# Altium schematic symbol library MCU_Texas_MSP430.SchLib: 361 symbols (part 4 of 9)
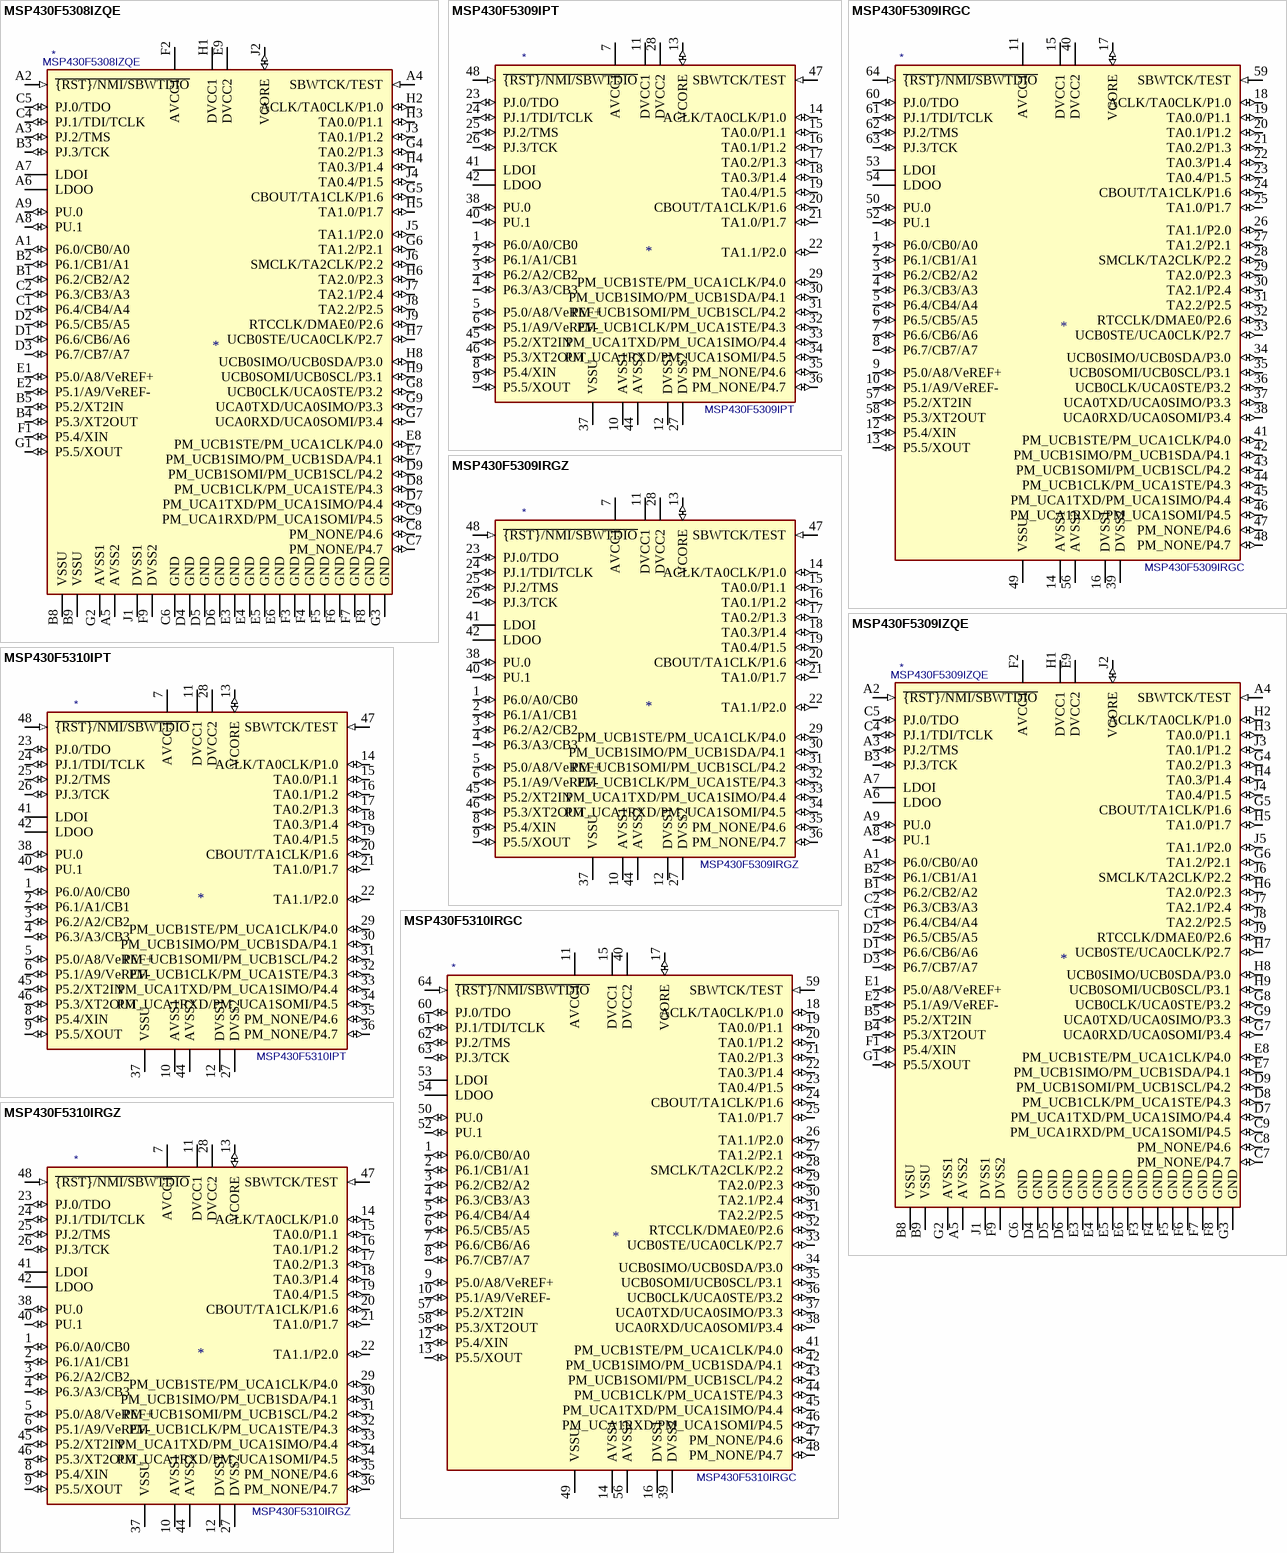
[diagram p37: symbols MSP430F5308IZQE to MSP430F5310IRGZ]

## MSP430F5309IZQE
designator *  value MSP430F5309IZQE
ki_keywords: TI MSP430 16-bit mixed signal microcontroller; ki_description: 24kB Flash, 6kB RAM, BGA-80; ki_fp_filters: Texas*MicroStar*Junior*BGA*5.0x5.0mm*Layout9x9*P0.5mm*; Footprint: Package_BGA:Texas_MicroStar_Junior_BGA-80_5.0x5.0mm_Layout9x9_P0.5mm; Supplier: http://www.ti.com/lit/ds/symlink/msp430f5309.pdf
footprint Texas_MicroStar_Junior_BGA-80_5.0x5.0mm_Layout9x9_P0.5mm
pins: A1 P6.0/CB0/A0 (io), A2 ~{{RST}/NMI/SBWTDIO} (in), A3 PJ.2/TMS (io), A4 SBWTCK/TEST (in), A5 AVSS2 (power), A6 LDOO (power), A7 LDOI (power), A8 PU.1 (io), A9 PU.0 (io), B1 P6.2/CB2/A2 (io), B2 P6.1/CB1/A1 (io), B3 PJ.3/TCK (io), B4 P5.3/XT2OUT (io), B5 P5.2/XT2IN (io), B8 VSSU (power), B9 VSSU (power), C1 P6.4/CB4/A4 (io), C2 P6.3/CB3/A3 (io), C4 PJ.1/TDI/TCLK (io), C5 PJ.0/TDO (io), C6 GND (power), C7 PM_NONE/P4.7 (io), C8 PM_NONE/P4.6 (io), C9 PM_UCA1RXD/PM_UCA1SOMI/P4.5 (io), D1 P6.6/CB6/A6 (io), D2 P6.5/CB5/A5 (io), D3 P6.7/CB7/A7 (io), D4 GND (power), D5 GND (power), D6 GND (power), D7 PM_UCA1TXD/PM_UCA1SIMO/P4.4 (io), D8 PM_UCB1CLK/PM_UCA1STE/P4.3 (io), D9 PM_UCB1SOMI/PM_UCB1SCL/P4.2 (io), E1 P5.0/A8/VeREF+ (io), E2 P5.1/A9/VeREF- (io), E3 GND (power), E4 GND (power), E5 GND (power), E6 GND (power), E7 PM_UCB1SIMO/PM_UCB1SDA/P4.1 (io), E8 PM_UCB1STE/PM_UCA1CLK/P4.0 (io), E9 DVCC2 (power), F1 P5.4/XIN (io), F2 AVCC1 (power), F3 GND (power), F4 GND (power), F5 GND (power), F6 GND (power), F7 GND (power), F8 GND (power), F9 DVSS2 (power), G1 P5.5/XOUT (io), G2 AVSS1 (power), G3 GND (power), G4 TA0.2/P1.3 (io), G5 CBOUT/TA1CLK/P1.6 (io), G6 TA1.2/P2.1 (io), G7 UCA0RXD/UCA0SOMI/P3.4 (io), G8 UCB0CLK/UCA0STE/P3.2 (io), G9 UCA0TXD/UCA0SIMO/P3.3 (io), H1 DVCC1 (power), H2 ACLK/TA0CLK/P1.0 (io), H3 TA0.0/P1.1 (io), H4 TA0.3/P1.4 (io), H5 TA1.0/P1.7 (io), H6 TA2.0/P2.3 (io), H7 UCB0STE/UCA0CLK/P2.7 (io), H8 UCB0SIMO/UCB0SDA/P3.0 (io), H9 UCB0SOMI/UCB0SCL/P3.1 (io), J1 DVSS1 (power), J2 VCORE (io), J3 TA0.1/P1.2 (io), J4 TA0.4/P1.5 (io), J5 TA1.1/P2.0 (io), J6 SMCLK/TA2CLK/P2.2 (io), J7 TA2.1/P2.4 (io), J8 TA2.2/P2.5 (io), J9 RTCCLK/DMAE0/P2.6 (io)

## MSP430F5310IPT
designator *  value MSP430F5310IPT
ki_keywords: TI MSP430 16-bit mixed signal microcontroller; ki_description: 32kB Flash, 6kB RAM, LQFP-48; ki_fp_filters: LQFP*7x7mm*P0.5mm*; Footprint: Package_QFP:LQFP-48_7x7mm_P0.5mm; Supplier: http://www.ti.com/lit/ds/symlink/msp430f5310.pdf
footprint LQFP-48_7x7mm_P0.5mm
pins: 1 P6.0/A0/CB0 (io), 2 P6.1/A1/CB1 (io), 3 P6.2/A2/CB2 (io), 4 P6.3/A3/CB3 (io), 5 P5.0/A8/VeREF+ (io), 6 P5.1/A9/VeREF- (io), 7 AVCC1 (power), 8 P5.4/XIN (io), 9 P5.5/XOUT (io), 10 AVSS1 (power), 11 DVCC1 (power), 12 DVSS1 (power), 13 VCORE (io), 14 ACLK/TA0CLK/P1.0 (io), 15 TA0.0/P1.1 (io), 16 TA0.1/P1.2 (io), 17 TA0.2/P1.3 (io), 18 TA0.3/P1.4 (io), 19 TA0.4/P1.5 (io), 20 CBOUT/TA1CLK/P1.6 (io), 21 TA1.0/P1.7 (io), 22 TA1.1/P2.0 (io), 23 PJ.0/TDO (io), 24 PJ.1/TDI/TCLK (io), 25 PJ.2/TMS (io), 26 PJ.3/TCK (io), 27 DVSS2 (power), 28 DVCC2 (power), 29 PM_UCB1STE/PM_UCA1CLK/P4.0 (io), 30 PM_UCB1SIMO/PM_UCB1SDA/P4.1 (io), 31 PM_UCB1SOMI/PM_UCB1SCL/P4.2 (io), 32 PM_UCB1CLK/PM_UCA1STE/P4.3 (io), 33 PM_UCA1TXD/PM_UCA1SIMO/P4.4 (io), 34 PM_UCA1RXD/PM_UCA1SOMI/P4.5 (io), 35 PM_NONE/P4.6 (io), 36 PM_NONE/P4.7 (io), 37 VSSU (power), 38 PU.0 (io), 40 PU.1 (io), 41 LDOI (power), 42 LDOO (power), 44 AVSS2 (power), 45 P5.2/XT2IN (io), 46 P5.3/XT2OUT (io), 47 SBWTCK/TEST (in), 48 ~{{RST}/NMI/SBWTDIO} (in)

## MSP430F5310IRGC
designator *  value MSP430F5310IRGC
ki_keywords: TI MSP430 16-bit mixed signal microcontroller; ki_description: 32kB Flash, 6kB RAM, QFN-64; ki_fp_filters: Texas*S?PVQFN*; Footprint: Package_DFN_QFN:Texas_S-PVQFN-N64_EP4.25x4.25mm; Supplier: http://www.ti.com/lit/ds/symlink/msp430f5310.pdf
footprint Texas_S-PVQFN-N64_EP4.25x4.25mm
pins: 1 P6.0/CB0/A0 (io), 2 P6.1/CB1/A1 (io), 3 P6.2/CB2/A2 (io), 4 P6.3/CB3/A3 (io), 5 P6.4/CB4/A4 (io), 6 P6.5/CB5/A5 (io), 7 P6.6/CB6/A6 (io), 8 P6.7/CB7/A7 (io), 9 P5.0/A8/VeREF+ (io), 10 P5.1/A9/VeREF- (io), 11 AVCC1 (power), 12 P5.4/XIN (io), 13 P5.5/XOUT (io), 14 AVSS1 (power), 15 DVCC1 (power), 16 DVSS1 (power), 17 VCORE (io), 18 ACLK/TA0CLK/P1.0 (io), 19 TA0.0/P1.1 (io), 20 TA0.1/P1.2 (io), 21 TA0.2/P1.3 (io), 22 TA0.3/P1.4 (io), 23 TA0.4/P1.5 (io), 24 CBOUT/TA1CLK/P1.6 (io), 25 TA1.0/P1.7 (io), 26 TA1.1/P2.0 (io), 27 TA1.2/P2.1 (io), 28 SMCLK/TA2CLK/P2.2 (io), 29 TA2.0/P2.3 (io), 30 TA2.1/P2.4 (io), 31 TA2.2/P2.5 (io), 32 RTCCLK/DMAE0/P2.6 (io), 33 UCB0STE/UCA0CLK/P2.7 (io), 34 UCB0SIMO/UCB0SDA/P3.0 (io), 35 UCB0SOMI/UCB0SCL/P3.1 (io), 36 UCB0CLK/UCA0STE/P3.2 (io), 37 UCA0TXD/UCA0SIMO/P3.3 (io), 38 UCA0RXD/UCA0SOMI/P3.4 (io), 39 DVSS2 (power), 40 DVCC2 (power), 41 PM_UCB1STE/PM_UCA1CLK/P4.0 (io), 42 PM_UCB1SIMO/PM_UCB1SDA/P4.1 (io), 43 PM_UCB1SOMI/PM_UCB1SCL/P4.2 (io), 44 PM_UCB1CLK/PM_UCA1STE/P4.3 (io), 45 PM_UCA1TXD/PM_UCA1SIMO/P4.4 (io), 46 PM_UCA1RXD/PM_UCA1SOMI/P4.5 (io), 47 PM_NONE/P4.6 (io), 48 PM_NONE/P4.7 (io), 49 VSSU (power), 50 PU.0 (io), 52 PU.1 (io), 53 LDOI (power), 54 LDOO (power), 56 AVSS2 (power), 57 P5.2/XT2IN (io), 58 P5.3/XT2OUT (io), 59 SBWTCK/TEST (in), 60 PJ.0/TDO (io), 61 PJ.1/TDI/TCLK (io), 62 PJ.2/TMS (io), 63 PJ.3/TCK (io), 64 ~{{RST}/NMI/SBWTDIO} (in)

## MSP430F5310IRGZ
designator *  value MSP430F5310IRGZ
ki_keywords: TI MSP430 16-bit mixed signal microcontroller; ki_description: 32kB Flash, 6kB RAM, QFN-48; ki_fp_filters: Texas*S?PVQFN*; Footprint: Package_DFN_QFN:Texas_S-PVQFN-N48_EP5.15x5.15mm; Supplier: http://www.ti.com/lit/ds/symlink/msp430f5310.pdf
footprint Texas_S-PVQFN-N48_EP5.15x5.15mm
pins: 1 P6.0/A0/CB0 (io), 2 P6.1/A1/CB1 (io), 3 P6.2/A2/CB2 (io), 4 P6.3/A3/CB3 (io), 5 P5.0/A8/VeREF+ (io), 6 P5.1/A9/VeREF- (io), 7 AVCC1 (power), 8 P5.4/XIN (io), 9 P5.5/XOUT (io), 10 AVSS1 (power), 11 DVCC1 (power), 12 DVSS1 (power), 13 VCORE (io), 14 ACLK/TA0CLK/P1.0 (io), 15 TA0.0/P1.1 (io), 16 TA0.1/P1.2 (io), 17 TA0.2/P1.3 (io), 18 TA0.3/P1.4 (io), 19 TA0.4/P1.5 (io), 20 CBOUT/TA1CLK/P1.6 (io), 21 TA1.0/P1.7 (io), 22 TA1.1/P2.0 (io), 23 PJ.0/TDO (io), 24 PJ.1/TDI/TCLK (io), 25 PJ.2/TMS (io), 26 PJ.3/TCK (io), 27 DVSS2 (power), 28 DVCC2 (power), 29 PM_UCB1STE/PM_UCA1CLK/P4.0 (io), 30 PM_UCB1SIMO/PM_UCB1SDA/P4.1 (io), 31 PM_UCB1SOMI/PM_UCB1SCL/P4.2 (io), 32 PM_UCB1CLK/PM_UCA1STE/P4.3 (io), 33 PM_UCA1TXD/PM_UCA1SIMO/P4.4 (io), 34 PM_UCA1RXD/PM_UCA1SOMI/P4.5 (io), 35 PM_NONE/P4.6 (io), 36 PM_NONE/P4.7 (io), 37 VSSU (power), 38 PU.0 (io), 40 PU.1 (io), 41 LDOI (power), 42 LDOO (power), 44 AVSS2 (power), 45 P5.2/XT2IN (io), 46 P5.3/XT2OUT (io), 47 SBWTCK/TEST (in), 48 ~{{RST}/NMI/SBWTDIO} (in)

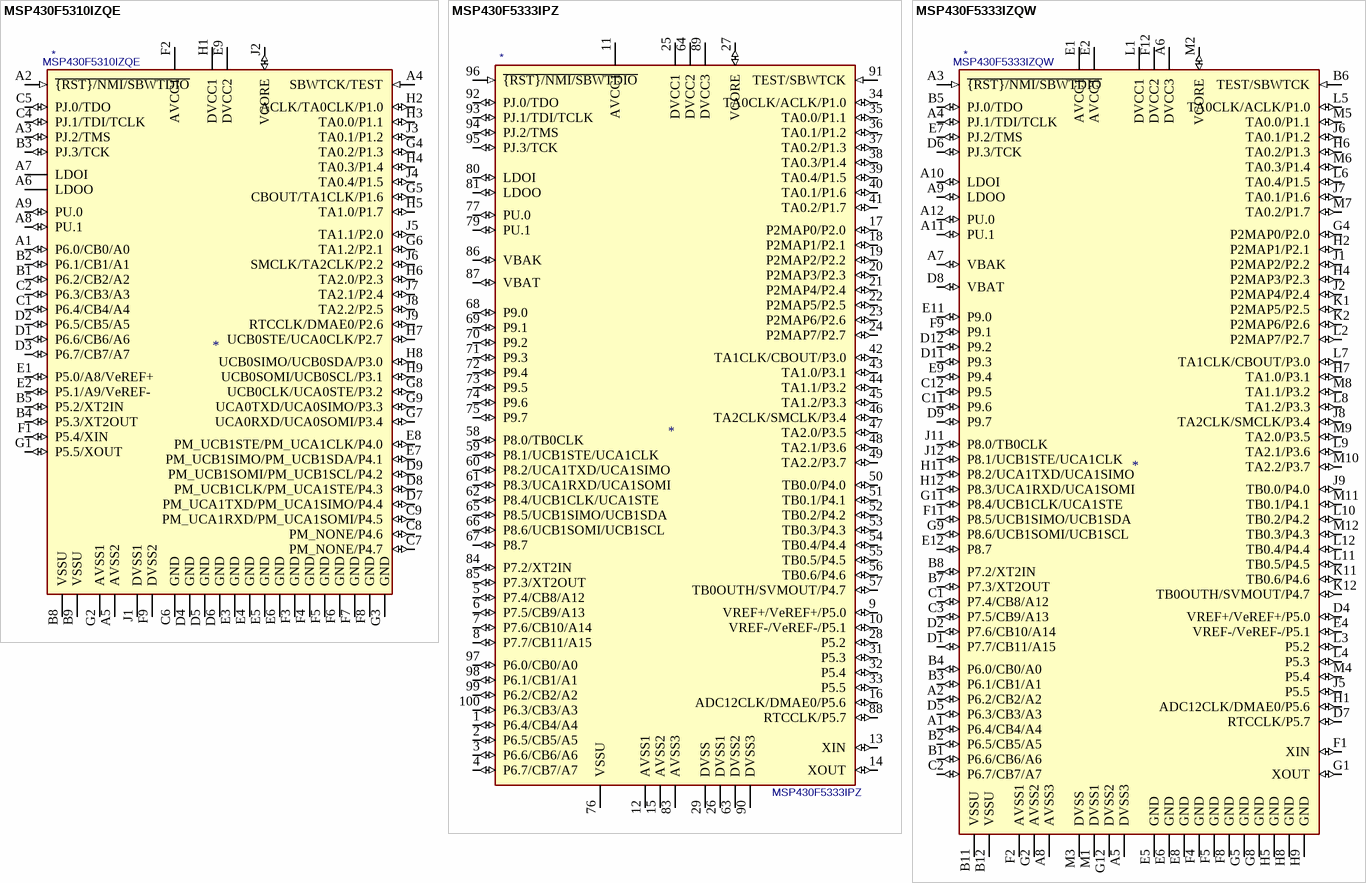
[diagram p12: symbols MSP430F5310IZQE to MSP430F5333IZQW]

## MSP430F5310IZQE
designator *  value MSP430F5310IZQE
ki_keywords: TI MSP430 16-bit mixed signal microcontroller; ki_description: 32kB Flash, 6kB RAM, BGA-80; ki_fp_filters: Texas*MicroStar*Junior*BGA*5.0x5.0mm*Layout9x9*P0.5mm*; Footprint: Package_BGA:Texas_MicroStar_Junior_BGA-80_5.0x5.0mm_Layout9x9_P0.5mm; Supplier: http://www.ti.com/lit/ds/symlink/msp430f5310.pdf
footprint Texas_MicroStar_Junior_BGA-80_5.0x5.0mm_Layout9x9_P0.5mm
pins: A1 P6.0/CB0/A0 (io), A2 ~{{RST}/NMI/SBWTDIO} (in), A3 PJ.2/TMS (io), A4 SBWTCK/TEST (in), A5 AVSS2 (power), A6 LDOO (power), A7 LDOI (power), A8 PU.1 (io), A9 PU.0 (io), B1 P6.2/CB2/A2 (io), B2 P6.1/CB1/A1 (io), B3 PJ.3/TCK (io), B4 P5.3/XT2OUT (io), B5 P5.2/XT2IN (io), B8 VSSU (power), B9 VSSU (power), C1 P6.4/CB4/A4 (io), C2 P6.3/CB3/A3 (io), C4 PJ.1/TDI/TCLK (io), C5 PJ.0/TDO (io), C6 GND (power), C7 PM_NONE/P4.7 (io), C8 PM_NONE/P4.6 (io), C9 PM_UCA1RXD/PM_UCA1SOMI/P4.5 (io), D1 P6.6/CB6/A6 (io), D2 P6.5/CB5/A5 (io), D3 P6.7/CB7/A7 (io), D4 GND (power), D5 GND (power), D6 GND (power), D7 PM_UCA1TXD/PM_UCA1SIMO/P4.4 (io), D8 PM_UCB1CLK/PM_UCA1STE/P4.3 (io), D9 PM_UCB1SOMI/PM_UCB1SCL/P4.2 (io), E1 P5.0/A8/VeREF+ (io), E2 P5.1/A9/VeREF- (io), E3 GND (power), E4 GND (power), E5 GND (power), E6 GND (power), E7 PM_UCB1SIMO/PM_UCB1SDA/P4.1 (io), E8 PM_UCB1STE/PM_UCA1CLK/P4.0 (io), E9 DVCC2 (power), F1 P5.4/XIN (io), F2 AVCC1 (power), F3 GND (power), F4 GND (power), F5 GND (power), F6 GND (power), F7 GND (power), F8 GND (power), F9 DVSS2 (power), G1 P5.5/XOUT (io), G2 AVSS1 (power), G3 GND (power), G4 TA0.2/P1.3 (io), G5 CBOUT/TA1CLK/P1.6 (io), G6 TA1.2/P2.1 (io), G7 UCA0RXD/UCA0SOMI/P3.4 (io), G8 UCB0CLK/UCA0STE/P3.2 (io), G9 UCA0TXD/UCA0SIMO/P3.3 (io), H1 DVCC1 (power), H2 ACLK/TA0CLK/P1.0 (io), H3 TA0.0/P1.1 (io), H4 TA0.3/P1.4 (io), H5 TA1.0/P1.7 (io), H6 TA2.0/P2.3 (io), H7 UCB0STE/UCA0CLK/P2.7 (io), H8 UCB0SIMO/UCB0SDA/P3.0 (io), H9 UCB0SOMI/UCB0SCL/P3.1 (io), J1 DVSS1 (power), J2 VCORE (io), J3 TA0.1/P1.2 (io), J4 TA0.4/P1.5 (io), J5 TA1.1/P2.0 (io), J6 SMCLK/TA2CLK/P2.2 (io), J7 TA2.1/P2.4 (io), J8 TA2.2/P2.5 (io), J9 RTCCLK/DMAE0/P2.6 (io)

## MSP430F5333IPZ
designator *  value MSP430F5333IPZ
ki_keywords: TI MSP430 16-bit mixed signal microcontroller; ki_description: 128kB Flash, 10kB RAM, LQFP-100; ki_fp_filters: LQFP*14x14mm*P0.5mm*; Footprint: Package_QFP:LQFP-100_14x14mm_P0.5mm; Supplier: http://www.ti.com/lit/ds/symlink/msp430f5333.pdf
footprint LQFP-100_14x14mm_P0.5mm
pins: 1 P6.4/CB4/A4 (io), 2 P6.5/CB5/A5 (io), 3 P6.6/CB6/A6 (io), 4 P6.7/CB7/A7 (io), 5 P7.4/CB8/A12 (io), 6 P7.5/CB9/A13 (io), 7 P7.6/CB10/A14 (io), 8 P7.7/CB11/A15 (io), 9 VREF+/VeREF+/P5.0 (io), 10 VREF-/VeREF-/P5.1 (io), 11 AVCC1 (power), 12 AVSS1 (power), 13 XIN (io), 14 XOUT (io), 15 AVSS2 (power), 16 ADC12CLK/DMAE0/P5.6 (io), 17 P2MAP0/P2.0 (io), 18 P2MAP1/P2.1 (io), 19 P2MAP2/P2.2 (io), 20 P2MAP3/P2.3 (io), 21 P2MAP4/P2.4 (io), 22 P2MAP5/P2.5 (io), 23 P2MAP6/P2.6 (io), 24 P2MAP7/P2.7 (io), 25 DVCC1 (power), 26 DVSS1 (power), 27 VCORE (io), 28 P5.2 (io), 29 DVSS (power), 31 P5.3 (io), 32 P5.4 (io), 33 P5.5 (io), 34 TA0CLK/ACLK/P1.0 (io), 35 TA0.0/P1.1 (io), 36 TA0.1/P1.2 (io), 37 TA0.2/P1.3 (io), 38 TA0.3/P1.4 (io), 39 TA0.4/P1.5 (io), 40 TA0.1/P1.6 (io), 41 TA0.2/P1.7 (io), 42 TA1CLK/CBOUT/P3.0 (io), 43 TA1.0/P3.1 (io), 44 TA1.1/P3.2 (io), 45 TA1.2/P3.3 (io), 46 TA2CLK/SMCLK/P3.4 (io), 47 TA2.0/P3.5 (io), 48 TA2.1/P3.6 (io), 49 TA2.2/P3.7 (io), 50 TB0.0/P4.0 (io), 51 TB0.1/P4.1 (io), 52 TB0.2/P4.2 (io), 53 TB0.3/P4.3 (io), 54 TB0.4/P4.4 (io), 55 TB0.5/P4.5 (io), 56 TB0.6/P4.6 (io), 57 TB0OUTH/SVMOUT/P4.7 (io), 58 P8.0/TB0CLK (io), 59 P8.1/UCB1STE/UCA1CLK (io), 60 P8.2/UCA1TXD/UCA1SIMO (io), 61 P8.3/UCA1RXD/UCA1SOMI (io), 62 P8.4/UCB1CLK/UCA1STE (io), 63 DVSS2 (power), 64 DVCC2 (power), 65 P8.5/UCB1SIMO/UCB1SDA (io), 66 P8.6/UCB1SOMI/UCB1SCL (io), 67 P8.7 (io), 68 P9.0 (io), 69 P9.1 (io), 70 P9.2 (io), 71 P9.3 (io), 72 P9.4 (io), 73 P9.5 (io), 74 P9.6 (io), 75 P9.7 (io), 76 VSSU (power), 77 PU.0 (io), 79 PU.1 (io), 80 LDOI (io), 81 LDOO (io), 83 AVSS3 (power), 84 P7.2/XT2IN (io), 85 P7.3/XT2OUT (io), 86 VBAK (io), 87 VBAT (io), 88 RTCCLK/P5.7 (io), 89 DVCC3 (power), 90 DVSS3 (power), 91 TEST/SBWTCK (in), 92 PJ.0/TDO (io), 93 PJ.1/TDI/TCLK (io), 94 PJ.2/TMS (io), 95 PJ.3/TCK (io), 96 ~{{RST}/NMI/SBWTDIO} (in), 97 P6.0/CB0/A0 (io), 98 P6.1/CB1/A1 (io), 99 P6.2/CB2/A2 (io), 100 P6.3/CB3/A3 (io)

## MSP430F5333IZQW
designator *  value MSP430F5333IZQW
ki_keywords: TI MSP430 16-bit mixed signal microcontroller; ki_description: 128kB Flash, 10kB RAM, BGA-113; ki_fp_filters: Texas*MicroStar*Junior*BGA*7.0x7.0mm*Layout12x12*P0.5mm*; Footprint: Package_BGA:Texas_MicroStar_Junior_BGA-113_7.0x7.0mm_Layout12x12_P0.5mm; Supplier: http://www.ti.com/lit/ds/symlink/msp430f5333.pdf
footprint Texas_MicroStar_Junior_BGA-113_7.0x7.0mm_Layout12x12_P0.5mm
pins: A1 P6.4/CB4/A4 (io), A2 P6.2/CB2/A2 (io), A3 ~{{RST}/NMI/SBWTDIO} (in), A4 PJ.1/TDI/TCLK (io), A5 DVSS3 (power), A6 DVCC3 (power), A7 VBAK (io), A8 AVSS3 (power), A9 LDOO (io), A10 LDOI (io), A11 PU.1 (io), A12 PU.0 (io), B1 P6.6/CB6/A6 (io), B2 P6.5/CB5/A5 (io), B3 P6.1/CB1/A1 (io), B4 P6.0/CB0/A0 (io), B5 PJ.0/TDO (io), B6 TEST/SBWTCK (in), B7 P7.3/XT2OUT (io), B8 P7.2/XT2IN (io), B11 VSSU (power), B12 VSSU (power), C1 P7.4/CB8/A12 (io), C2 P6.7/CB7/A7 (io), C3 P7.5/CB9/A13 (io), C11 P9.6 (io), C12 P9.5 (io), D1 P7.7/CB11/A15 (io), D2 P7.6/CB10/A14 (io), D4 VREF+/VeREF+/P5.0 (io), D5 P6.3/CB3/A3 (io), D6 PJ.3/TCK (io), D7 RTCCLK/P5.7 (io), D8 VBAT (io), D9 P9.7 (io), D11 P9.3 (io), D12 P9.2 (io), E1 AVCC1 (power), E2 AVCC1 (power), E4 VREF-/VeREF-/P5.1 (io), E5 GND (power), E6 GND (power), E7 PJ.2/TMS (io), E8 GND (power), E9 P9.4 (io), E11 P9.0 (io), E12 P8.7 (io), F1 XIN (io), F2 AVSS1 (power), F4 GND (power), F5 GND (power), F8 GND (power), F9 P9.1 (io), F11 P8.5/UCB1SIMO/UCB1SDA (io), F12 DVCC2 (power), G1 XOUT (io), G2 AVSS2 (power), G4 P2MAP0/P2.0 (io), G5 GND (power), G8 GND (power), G9 P8.6/UCB1SOMI/UCB1SCL (io), G11 P8.4/UCB1CLK/UCA1STE (io), G12 DVSS2 (power), H1 ADC12CLK/DMAE0/P5.6 (io), H2 P2MAP1/P2.1 (io), H4 P2MAP3/P2.3 (io), H5 GND (power), H6 TA0.2/P1.3 (io), H7 TA1.0/P3.1 (io), H8 GND (power), H9 GND (power), H11 P8.2/UCA1TXD/UCA1SIMO (io), H12 P8.3/UCA1RXD/UCA1SOMI (io), J1 P2MAP2/P2.2 (io), J2 P2MAP4/P2.4 (io), J5 P5.5 (io), J6 TA0.1/P1.2 (io), J7 TA0.1/P1.6 (io), J8 TA2CLK/SMCLK/P3.4 (io), J9 TB0.0/P4.0 (io), J11 P8.0/TB0CLK (io), J12 P8.1/UCB1STE/UCA1CLK (io), K1 P2MAP5/P2.5 (io), K2 P2MAP6/P2.6 (io), K11 TB0.6/P4.6 (io), K12 TB0OUTH/SVMOUT/P4.7 (io), L1 DVCC1 (power), L2 P2MAP7/P2.7 (io), L3 P5.2 (io), L4 P5.3 (io), L5 TA0CLK/ACLK/P1.0 (io), L6 TA0.4/P1.5 (io), L7 TA1CLK/CBOUT/P3.0 (io), L8 TA1.2/P3.3 (io), L9 TA2.1/P3.6 (io), L10 TB0.2/P4.2 (io), L11 TB0.5/P4.5 (io), L12 TB0.4/P4.4 (io), M1 DVSS1 (power), M2 VCORE (io), M3 DVSS (power), M4 P5.4 (io), M5 TA0.0/P1.1 (io), M6 TA0.3/P1.4 (io), M7 TA0.2/P1.7 (io), M8 TA1.1/P3.2 (io), M9 TA2.0/P3.5 (io), M10 TA2.2/P3.7 (io), M11 TB0.1/P4.1 (io), M12 TB0.3/P4.3 (io)

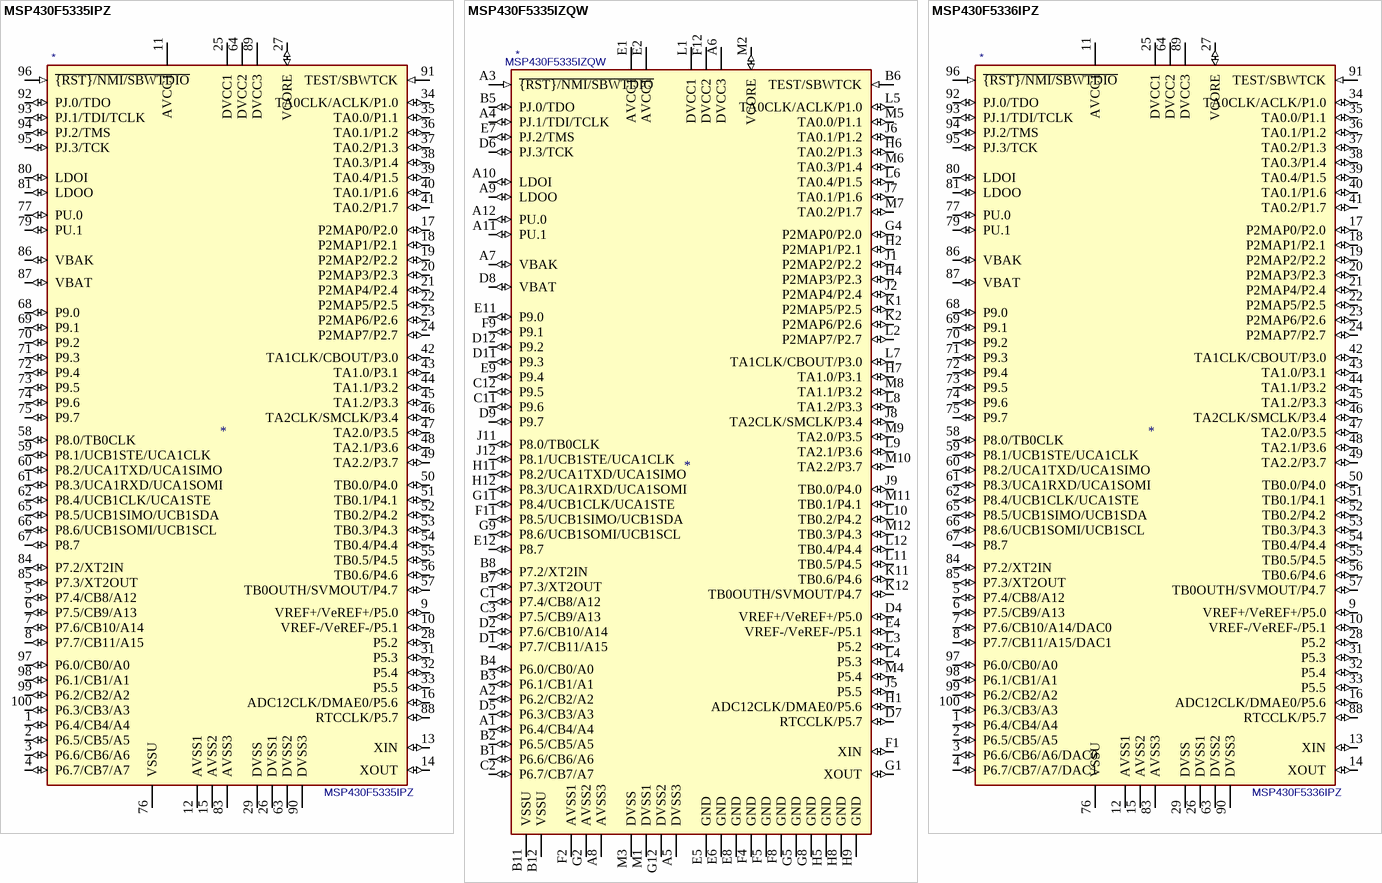
[diagram p13: symbols MSP430F5335IPZ to MSP430F5336IPZ]

## MSP430F5335IPZ
designator *  value MSP430F5335IPZ
ki_keywords: TI MSP430 16-bit mixed signal microcontroller; ki_description: 256kB Flash, 18kB RAM, LQFP-100; ki_fp_filters: LQFP*14x14mm*P0.5mm*; Footprint: Package_QFP:LQFP-100_14x14mm_P0.5mm; Supplier: http://www.ti.com/lit/ds/symlink/msp430f5335.pdf
footprint LQFP-100_14x14mm_P0.5mm
pins: 1 P6.4/CB4/A4 (io), 2 P6.5/CB5/A5 (io), 3 P6.6/CB6/A6 (io), 4 P6.7/CB7/A7 (io), 5 P7.4/CB8/A12 (io), 6 P7.5/CB9/A13 (io), 7 P7.6/CB10/A14 (io), 8 P7.7/CB11/A15 (io), 9 VREF+/VeREF+/P5.0 (io), 10 VREF-/VeREF-/P5.1 (io), 11 AVCC1 (power), 12 AVSS1 (power), 13 XIN (io), 14 XOUT (io), 15 AVSS2 (power), 16 ADC12CLK/DMAE0/P5.6 (io), 17 P2MAP0/P2.0 (io), 18 P2MAP1/P2.1 (io), 19 P2MAP2/P2.2 (io), 20 P2MAP3/P2.3 (io), 21 P2MAP4/P2.4 (io), 22 P2MAP5/P2.5 (io), 23 P2MAP6/P2.6 (io), 24 P2MAP7/P2.7 (io), 25 DVCC1 (power), 26 DVSS1 (power), 27 VCORE (io), 28 P5.2 (io), 29 DVSS (power), 31 P5.3 (io), 32 P5.4 (io), 33 P5.5 (io), 34 TA0CLK/ACLK/P1.0 (io), 35 TA0.0/P1.1 (io), 36 TA0.1/P1.2 (io), 37 TA0.2/P1.3 (io), 38 TA0.3/P1.4 (io), 39 TA0.4/P1.5 (io), 40 TA0.1/P1.6 (io), 41 TA0.2/P1.7 (io), 42 TA1CLK/CBOUT/P3.0 (io), 43 TA1.0/P3.1 (io), 44 TA1.1/P3.2 (io), 45 TA1.2/P3.3 (io), 46 TA2CLK/SMCLK/P3.4 (io), 47 TA2.0/P3.5 (io), 48 TA2.1/P3.6 (io), 49 TA2.2/P3.7 (io), 50 TB0.0/P4.0 (io), 51 TB0.1/P4.1 (io), 52 TB0.2/P4.2 (io), 53 TB0.3/P4.3 (io), 54 TB0.4/P4.4 (io), 55 TB0.5/P4.5 (io), 56 TB0.6/P4.6 (io), 57 TB0OUTH/SVMOUT/P4.7 (io), 58 P8.0/TB0CLK (io), 59 P8.1/UCB1STE/UCA1CLK (io), 60 P8.2/UCA1TXD/UCA1SIMO (io), 61 P8.3/UCA1RXD/UCA1SOMI (io), 62 P8.4/UCB1CLK/UCA1STE (io), 63 DVSS2 (power), 64 DVCC2 (power), 65 P8.5/UCB1SIMO/UCB1SDA (io), 66 P8.6/UCB1SOMI/UCB1SCL (io), 67 P8.7 (io), 68 P9.0 (io), 69 P9.1 (io), 70 P9.2 (io), 71 P9.3 (io), 72 P9.4 (io), 73 P9.5 (io), 74 P9.6 (io), 75 P9.7 (io), 76 VSSU (power), 77 PU.0 (io), 79 PU.1 (io), 80 LDOI (io), 81 LDOO (io), 83 AVSS3 (power), 84 P7.2/XT2IN (io), 85 P7.3/XT2OUT (io), 86 VBAK (io), 87 VBAT (io), 88 RTCCLK/P5.7 (io), 89 DVCC3 (power), 90 DVSS3 (power), 91 TEST/SBWTCK (in), 92 PJ.0/TDO (io), 93 PJ.1/TDI/TCLK (io), 94 PJ.2/TMS (io), 95 PJ.3/TCK (io), 96 ~{{RST}/NMI/SBWTDIO} (in), 97 P6.0/CB0/A0 (io), 98 P6.1/CB1/A1 (io), 99 P6.2/CB2/A2 (io), 100 P6.3/CB3/A3 (io)

## MSP430F5335IZQW
designator *  value MSP430F5335IZQW
ki_keywords: TI MSP430 16-bit mixed signal microcontroller; ki_description: 256kB Flash, 18kB RAM, BGA-113; ki_fp_filters: Texas*MicroStar*Junior*BGA*7.0x7.0mm*Layout12x12*P0.5mm*; Footprint: Package_BGA:Texas_MicroStar_Junior_BGA-113_7.0x7.0mm_Layout12x12_P0.5mm; Supplier: http://www.ti.com/lit/ds/symlink/msp430f5335.pdf
footprint Texas_MicroStar_Junior_BGA-113_7.0x7.0mm_Layout12x12_P0.5mm
pins: A1 P6.4/CB4/A4 (io), A2 P6.2/CB2/A2 (io), A3 ~{{RST}/NMI/SBWTDIO} (in), A4 PJ.1/TDI/TCLK (io), A5 DVSS3 (power), A6 DVCC3 (power), A7 VBAK (io), A8 AVSS3 (power), A9 LDOO (io), A10 LDOI (io), A11 PU.1 (io), A12 PU.0 (io), B1 P6.6/CB6/A6 (io), B2 P6.5/CB5/A5 (io), B3 P6.1/CB1/A1 (io), B4 P6.0/CB0/A0 (io), B5 PJ.0/TDO (io), B6 TEST/SBWTCK (in), B7 P7.3/XT2OUT (io), B8 P7.2/XT2IN (io), B11 VSSU (power), B12 VSSU (power), C1 P7.4/CB8/A12 (io), C2 P6.7/CB7/A7 (io), C3 P7.5/CB9/A13 (io), C11 P9.6 (io), C12 P9.5 (io), D1 P7.7/CB11/A15 (io), D2 P7.6/CB10/A14 (io), D4 VREF+/VeREF+/P5.0 (io), D5 P6.3/CB3/A3 (io), D6 PJ.3/TCK (io), D7 RTCCLK/P5.7 (io), D8 VBAT (io), D9 P9.7 (io), D11 P9.3 (io), D12 P9.2 (io), E1 AVCC1 (power), E2 AVCC1 (power), E4 VREF-/VeREF-/P5.1 (io), E5 GND (power), E6 GND (power), E7 PJ.2/TMS (io), E8 GND (power), E9 P9.4 (io), E11 P9.0 (io), E12 P8.7 (io), F1 XIN (io), F2 AVSS1 (power), F4 GND (power), F5 GND (power), F8 GND (power), F9 P9.1 (io), F11 P8.5/UCB1SIMO/UCB1SDA (io), F12 DVCC2 (power), G1 XOUT (io), G2 AVSS2 (power), G4 P2MAP0/P2.0 (io), G5 GND (power), G8 GND (power), G9 P8.6/UCB1SOMI/UCB1SCL (io), G11 P8.4/UCB1CLK/UCA1STE (io), G12 DVSS2 (power), H1 ADC12CLK/DMAE0/P5.6 (io), H2 P2MAP1/P2.1 (io), H4 P2MAP3/P2.3 (io), H5 GND (power), H6 TA0.2/P1.3 (io), H7 TA1.0/P3.1 (io), H8 GND (power), H9 GND (power), H11 P8.2/UCA1TXD/UCA1SIMO (io), H12 P8.3/UCA1RXD/UCA1SOMI (io), J1 P2MAP2/P2.2 (io), J2 P2MAP4/P2.4 (io), J5 P5.5 (io), J6 TA0.1/P1.2 (io), J7 TA0.1/P1.6 (io), J8 TA2CLK/SMCLK/P3.4 (io), J9 TB0.0/P4.0 (io), J11 P8.0/TB0CLK (io), J12 P8.1/UCB1STE/UCA1CLK (io), K1 P2MAP5/P2.5 (io), K2 P2MAP6/P2.6 (io), K11 TB0.6/P4.6 (io), K12 TB0OUTH/SVMOUT/P4.7 (io), L1 DVCC1 (power), L2 P2MAP7/P2.7 (io), L3 P5.2 (io), L4 P5.3 (io), L5 TA0CLK/ACLK/P1.0 (io), L6 TA0.4/P1.5 (io), L7 TA1CLK/CBOUT/P3.0 (io), L8 TA1.2/P3.3 (io), L9 TA2.1/P3.6 (io), L10 TB0.2/P4.2 (io), L11 TB0.5/P4.5 (io), L12 TB0.4/P4.4 (io), M1 DVSS1 (power), M2 VCORE (io), M3 DVSS (power), M4 P5.4 (io), M5 TA0.0/P1.1 (io), M6 TA0.3/P1.4 (io), M7 TA0.2/P1.7 (io), M8 TA1.1/P3.2 (io), M9 TA2.0/P3.5 (io), M10 TA2.2/P3.7 (io), M11 TB0.1/P4.1 (io), M12 TB0.3/P4.3 (io)

## MSP430F5336IPZ
designator *  value MSP430F5336IPZ
ki_keywords: TI MSP430 16-bit mixed signal microcontroller; ki_description: 128kB Flash, 18kB RAM, LQFP-100; ki_fp_filters: LQFP*14x14mm*P0.5mm*; Footprint: Package_QFP:LQFP-100_14x14mm_P0.5mm; Supplier: http://www.ti.com/lit/ds/symlink/msp430f5336.pdf
footprint LQFP-100_14x14mm_P0.5mm
pins: 1 P6.4/CB4/A4 (io), 2 P6.5/CB5/A5 (io), 3 P6.6/CB6/A6/DAC0 (io), 4 P6.7/CB7/A7/DAC1 (io), 5 P7.4/CB8/A12 (io), 6 P7.5/CB9/A13 (io), 7 P7.6/CB10/A14/DAC0 (io), 8 P7.7/CB11/A15/DAC1 (io), 9 VREF+/VeREF+/P5.0 (io), 10 VREF-/VeREF-/P5.1 (io), 11 AVCC1 (power), 12 AVSS1 (power), 13 XIN (io), 14 XOUT (io), 15 AVSS2 (power), 16 ADC12CLK/DMAE0/P5.6 (io), 17 P2MAP0/P2.0 (io), 18 P2MAP1/P2.1 (io), 19 P2MAP2/P2.2 (io), 20 P2MAP3/P2.3 (io), 21 P2MAP4/P2.4 (io), 22 P2MAP5/P2.5 (io), 23 P2MAP6/P2.6 (io), 24 P2MAP7/P2.7 (io), 25 DVCC1 (power), 26 DVSS1 (power), 27 VCORE (io), 28 P5.2 (io), 29 DVSS (power), 31 P5.3 (io), 32 P5.4 (io), 33 P5.5 (io), 34 TA0CLK/ACLK/P1.0 (io), 35 TA0.0/P1.1 (io), 36 TA0.1/P1.2 (io), 37 TA0.2/P1.3 (io), 38 TA0.3/P1.4 (io), 39 TA0.4/P1.5 (io), 40 TA0.1/P1.6 (io), 41 TA0.2/P1.7 (io), 42 TA1CLK/CBOUT/P3.0 (io), 43 TA1.0/P3.1 (io), 44 TA1.1/P3.2 (io), 45 TA1.2/P3.3 (io), 46 TA2CLK/SMCLK/P3.4 (io), 47 TA2.0/P3.5 (io), 48 TA2.1/P3.6 (io), 49 TA2.2/P3.7 (io), 50 TB0.0/P4.0 (io), 51 TB0.1/P4.1 (io), 52 TB0.2/P4.2 (io), 53 TB0.3/P4.3 (io), 54 TB0.4/P4.4 (io), 55 TB0.5/P4.5 (io), 56 TB0.6/P4.6 (io), 57 TB0OUTH/SVMOUT/P4.7 (io), 58 P8.0/TB0CLK (io), 59 P8.1/UCB1STE/UCA1CLK (io), 60 P8.2/UCA1TXD/UCA1SIMO (io), 61 P8.3/UCA1RXD/UCA1SOMI (io), 62 P8.4/UCB1CLK/UCA1STE (io), 63 DVSS2 (power), 64 DVCC2 (power), 65 P8.5/UCB1SIMO/UCB1SDA (io), 66 P8.6/UCB1SOMI/UCB1SCL (io), 67 P8.7 (io), 68 P9.0 (io), 69 P9.1 (io), 70 P9.2 (io), 71 P9.3 (io), 72 P9.4 (io), 73 P9.5 (io), 74 P9.6 (io), 75 P9.7 (io), 76 VSSU (power), 77 PU.0 (io), 79 PU.1 (io), 80 LDOI (io), 81 LDOO (io), 83 AVSS3 (power), 84 P7.2/XT2IN (io), 85 P7.3/XT2OUT (io), 86 VBAK (io), 87 VBAT (io), 88 RTCCLK/P5.7 (io), 89 DVCC3 (power), 90 DVSS3 (power), 91 TEST/SBWTCK (in), 92 PJ.0/TDO (io), 93 PJ.1/TDI/TCLK (io), 94 PJ.2/TMS (io), 95 PJ.3/TCK (io), 96 ~{{RST}/NMI/SBWTDIO} (in), 97 P6.0/CB0/A0 (io), 98 P6.1/CB1/A1 (io), 99 P6.2/CB2/A2 (io), 100 P6.3/CB3/A3 (io)

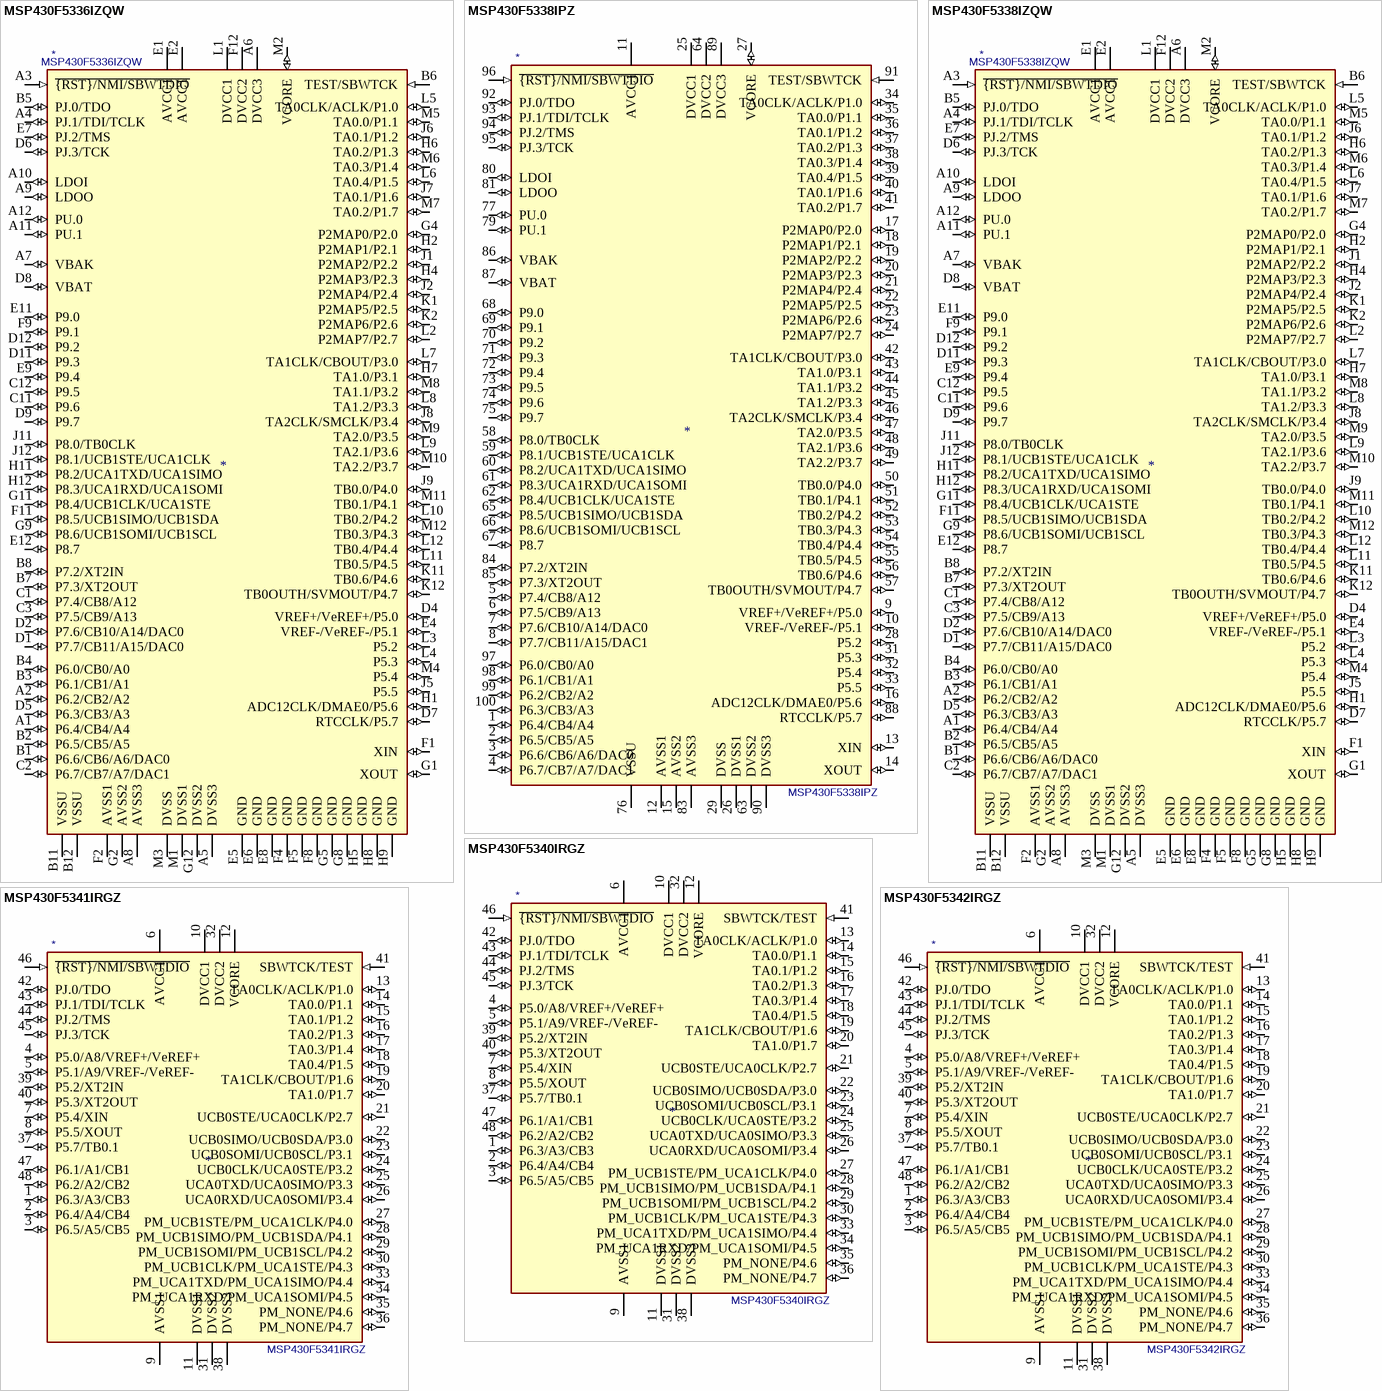
[diagram p14: symbols MSP430F5336IZQW to MSP430F5342IRGZ]

## MSP430F5336IZQW
designator *  value MSP430F5336IZQW
ki_keywords: TI MSP430 16-bit mixed signal microcontroller; ki_description: 128kB Flash, 18kB RAM, BGA-113; ki_fp_filters: Texas*MicroStar*Junior*BGA*7.0x7.0mm*Layout12x12*P0.5mm*; Footprint: Package_BGA:Texas_MicroStar_Junior_BGA-113_7.0x7.0mm_Layout12x12_P0.5mm; Supplier: http://www.ti.com/lit/ds/symlink/msp430f5336.pdf
footprint Texas_MicroStar_Junior_BGA-113_7.0x7.0mm_Layout12x12_P0.5mm
pins: A1 P6.4/CB4/A4 (io), A2 P6.2/CB2/A2 (io), A3 ~{{RST}/NMI/SBWTDIO} (in), A4 PJ.1/TDI/TCLK (io), A5 DVSS3 (power), A6 DVCC3 (power), A7 VBAK (io), A8 AVSS3 (power), A9 LDOO (io), A10 LDOI (io), A11 PU.1 (io), A12 PU.0 (io), B1 P6.6/CB6/A6/DAC0 (io), B2 P6.5/CB5/A5 (io), B3 P6.1/CB1/A1 (io), B4 P6.0/CB0/A0 (io), B5 PJ.0/TDO (io), B6 TEST/SBWTCK (in), B7 P7.3/XT2OUT (io), B8 P7.2/XT2IN (io), B11 VSSU (power), B12 VSSU (power), C1 P7.4/CB8/A12 (io), C2 P6.7/CB7/A7/DAC1 (io), C3 P7.5/CB9/A13 (io), C11 P9.6 (io), C12 P9.5 (io), D1 P7.7/CB11/A15/DAC0 (io), D2 P7.6/CB10/A14/DAC0 (io), D4 VREF+/VeREF+/P5.0 (io), D5 P6.3/CB3/A3 (io), D6 PJ.3/TCK (io), D7 RTCCLK/P5.7 (io), D8 VBAT (io), D9 P9.7 (io), D11 P9.3 (io), D12 P9.2 (io), E1 AVCC1 (power), E2 AVCC1 (power), E4 VREF-/VeREF-/P5.1 (io), E5 GND (power), E6 GND (power), E7 PJ.2/TMS (io), E8 GND (power), E9 P9.4 (io), E11 P9.0 (io), E12 P8.7 (io), F1 XIN (io), F2 AVSS1 (power), F4 GND (power), F5 GND (power), F8 GND (power), F9 P9.1 (io), F11 P8.5/UCB1SIMO/UCB1SDA (io), F12 DVCC2 (power), G1 XOUT (io), G2 AVSS2 (power), G4 P2MAP0/P2.0 (io), G5 GND (power), G8 GND (power), G9 P8.6/UCB1SOMI/UCB1SCL (io), G11 P8.4/UCB1CLK/UCA1STE (io), G12 DVSS2 (power), H1 ADC12CLK/DMAE0/P5.6 (io), H2 P2MAP1/P2.1 (io), H4 P2MAP3/P2.3 (io), H5 GND (power), H6 TA0.2/P1.3 (io), H7 TA1.0/P3.1 (io), H8 GND (power), H9 GND (power), H11 P8.2/UCA1TXD/UCA1SIMO (io), H12 P8.3/UCA1RXD/UCA1SOMI (io), J1 P2MAP2/P2.2 (io), J2 P2MAP4/P2.4 (io), J5 P5.5 (io), J6 TA0.1/P1.2 (io), J7 TA0.1/P1.6 (io), J8 TA2CLK/SMCLK/P3.4 (io), J9 TB0.0/P4.0 (io), J11 P8.0/TB0CLK (io), J12 P8.1/UCB1STE/UCA1CLK (io), K1 P2MAP5/P2.5 (io), K2 P2MAP6/P2.6 (io), K11 TB0.6/P4.6 (io), K12 TB0OUTH/SVMOUT/P4.7 (io), L1 DVCC1 (power), L2 P2MAP7/P2.7 (io), L3 P5.2 (io), L4 P5.3 (io), L5 TA0CLK/ACLK/P1.0 (io), L6 TA0.4/P1.5 (io), L7 TA1CLK/CBOUT/P3.0 (io), L8 TA1.2/P3.3 (io), L9 TA2.1/P3.6 (io), L10 TB0.2/P4.2 (io), L11 TB0.5/P4.5 (io), L12 TB0.4/P4.4 (io), M1 DVSS1 (power), M2 VCORE (io), M3 DVSS (power), M4 P5.4 (io), M5 TA0.0/P1.1 (io), M6 TA0.3/P1.4 (io), M7 TA0.2/P1.7 (io), M8 TA1.1/P3.2 (io), M9 TA2.0/P3.5 (io), M10 TA2.2/P3.7 (io), M11 TB0.1/P4.1 (io), M12 TB0.3/P4.3 (io)

## MSP430F5338IPZ
designator *  value MSP430F5338IPZ
ki_keywords: TI MSP430 16-bit mixed signal microcontroller; ki_description: 256kB Flash, 18kB RAM, LQFP-100; ki_fp_filters: LQFP*14x14mm*P0.5mm*; Footprint: Package_QFP:LQFP-100_14x14mm_P0.5mm; Supplier: http://www.ti.com/lit/ds/symlink/msp430f5338.pdf
footprint LQFP-100_14x14mm_P0.5mm
pins: 1 P6.4/CB4/A4 (io), 2 P6.5/CB5/A5 (io), 3 P6.6/CB6/A6/DAC0 (io), 4 P6.7/CB7/A7/DAC1 (io), 5 P7.4/CB8/A12 (io), 6 P7.5/CB9/A13 (io), 7 P7.6/CB10/A14/DAC0 (io), 8 P7.7/CB11/A15/DAC1 (io), 9 VREF+/VeREF+/P5.0 (io), 10 VREF-/VeREF-/P5.1 (io), 11 AVCC1 (power), 12 AVSS1 (power), 13 XIN (io), 14 XOUT (io), 15 AVSS2 (power), 16 ADC12CLK/DMAE0/P5.6 (io), 17 P2MAP0/P2.0 (io), 18 P2MAP1/P2.1 (io), 19 P2MAP2/P2.2 (io), 20 P2MAP3/P2.3 (io), 21 P2MAP4/P2.4 (io), 22 P2MAP5/P2.5 (io), 23 P2MAP6/P2.6 (io), 24 P2MAP7/P2.7 (io), 25 DVCC1 (power), 26 DVSS1 (power), 27 VCORE (io), 28 P5.2 (io), 29 DVSS (power), 31 P5.3 (io), 32 P5.4 (io), 33 P5.5 (io), 34 TA0CLK/ACLK/P1.0 (io), 35 TA0.0/P1.1 (io), 36 TA0.1/P1.2 (io), 37 TA0.2/P1.3 (io), 38 TA0.3/P1.4 (io), 39 TA0.4/P1.5 (io), 40 TA0.1/P1.6 (io), 41 TA0.2/P1.7 (io), 42 TA1CLK/CBOUT/P3.0 (io), 43 TA1.0/P3.1 (io), 44 TA1.1/P3.2 (io), 45 TA1.2/P3.3 (io), 46 TA2CLK/SMCLK/P3.4 (io), 47 TA2.0/P3.5 (io), 48 TA2.1/P3.6 (io), 49 TA2.2/P3.7 (io), 50 TB0.0/P4.0 (io), 51 TB0.1/P4.1 (io), 52 TB0.2/P4.2 (io), 53 TB0.3/P4.3 (io), 54 TB0.4/P4.4 (io), 55 TB0.5/P4.5 (io), 56 TB0.6/P4.6 (io), 57 TB0OUTH/SVMOUT/P4.7 (io), 58 P8.0/TB0CLK (io), 59 P8.1/UCB1STE/UCA1CLK (io), 60 P8.2/UCA1TXD/UCA1SIMO (io), 61 P8.3/UCA1RXD/UCA1SOMI (io), 62 P8.4/UCB1CLK/UCA1STE (io), 63 DVSS2 (power), 64 DVCC2 (power), 65 P8.5/UCB1SIMO/UCB1SDA (io), 66 P8.6/UCB1SOMI/UCB1SCL (io), 67 P8.7 (io), 68 P9.0 (io), 69 P9.1 (io), 70 P9.2 (io), 71 P9.3 (io), 72 P9.4 (io), 73 P9.5 (io), 74 P9.6 (io), 75 P9.7 (io), 76 VSSU (power), 77 PU.0 (io), 79 PU.1 (io), 80 LDOI (io), 81 LDOO (io), 83 AVSS3 (power), 84 P7.2/XT2IN (io), 85 P7.3/XT2OUT (io), 86 VBAK (io), 87 VBAT (io), 88 RTCCLK/P5.7 (io), 89 DVCC3 (power), 90 DVSS3 (power), 91 TEST/SBWTCK (in), 92 PJ.0/TDO (io), 93 PJ.1/TDI/TCLK (io), 94 PJ.2/TMS (io), 95 PJ.3/TCK (io), 96 ~{{RST}/NMI/SBWTDIO} (in), 97 P6.0/CB0/A0 (io), 98 P6.1/CB1/A1 (io), 99 P6.2/CB2/A2 (io), 100 P6.3/CB3/A3 (io)

## MSP430F5338IZQW
designator *  value MSP430F5338IZQW
ki_keywords: TI MSP430 16-bit mixed signal microcontroller; ki_description: 128kB Flash, 18kB RAM, BGA-113; ki_fp_filters: Texas*MicroStar*Junior*BGA*7.0x7.0mm*Layout12x12*P0.5mm*; Footprint: Package_BGA:Texas_MicroStar_Junior_BGA-113_7.0x7.0mm_Layout12x12_P0.5mm; Supplier: http://www.ti.com/lit/ds/symlink/msp430f5338.pdf
footprint Texas_MicroStar_Junior_BGA-113_7.0x7.0mm_Layout12x12_P0.5mm
pins: A1 P6.4/CB4/A4 (io), A2 P6.2/CB2/A2 (io), A3 ~{{RST}/NMI/SBWTDIO} (in), A4 PJ.1/TDI/TCLK (io), A5 DVSS3 (power), A6 DVCC3 (power), A7 VBAK (io), A8 AVSS3 (power), A9 LDOO (io), A10 LDOI (io), A11 PU.1 (io), A12 PU.0 (io), B1 P6.6/CB6/A6/DAC0 (io), B2 P6.5/CB5/A5 (io), B3 P6.1/CB1/A1 (io), B4 P6.0/CB0/A0 (io), B5 PJ.0/TDO (io), B6 TEST/SBWTCK (in), B7 P7.3/XT2OUT (io), B8 P7.2/XT2IN (io), B11 VSSU (power), B12 VSSU (power), C1 P7.4/CB8/A12 (io), C2 P6.7/CB7/A7/DAC1 (io), C3 P7.5/CB9/A13 (io), C11 P9.6 (io), C12 P9.5 (io), D1 P7.7/CB11/A15/DAC0 (io), D2 P7.6/CB10/A14/DAC0 (io), D4 VREF+/VeREF+/P5.0 (io), D5 P6.3/CB3/A3 (io), D6 PJ.3/TCK (io), D7 RTCCLK/P5.7 (io), D8 VBAT (io), D9 P9.7 (io), D11 P9.3 (io), D12 P9.2 (io), E1 AVCC1 (power), E2 AVCC1 (power), E4 VREF-/VeREF-/P5.1 (io), E5 GND (power), E6 GND (power), E7 PJ.2/TMS (io), E8 GND (power), E9 P9.4 (io), E11 P9.0 (io), E12 P8.7 (io), F1 XIN (io), F2 AVSS1 (power), F4 GND (power), F5 GND (power), F8 GND (power), F9 P9.1 (io), F11 P8.5/UCB1SIMO/UCB1SDA (io), F12 DVCC2 (power), G1 XOUT (io), G2 AVSS2 (power), G4 P2MAP0/P2.0 (io), G5 GND (power), G8 GND (power), G9 P8.6/UCB1SOMI/UCB1SCL (io), G11 P8.4/UCB1CLK/UCA1STE (io), G12 DVSS2 (power), H1 ADC12CLK/DMAE0/P5.6 (io), H2 P2MAP1/P2.1 (io), H4 P2MAP3/P2.3 (io), H5 GND (power), H6 TA0.2/P1.3 (io), H7 TA1.0/P3.1 (io), H8 GND (power), H9 GND (power), H11 P8.2/UCA1TXD/UCA1SIMO (io), H12 P8.3/UCA1RXD/UCA1SOMI (io), J1 P2MAP2/P2.2 (io), J2 P2MAP4/P2.4 (io), J5 P5.5 (io), J6 TA0.1/P1.2 (io), J7 TA0.1/P1.6 (io), J8 TA2CLK/SMCLK/P3.4 (io), J9 TB0.0/P4.0 (io), J11 P8.0/TB0CLK (io), J12 P8.1/UCB1STE/UCA1CLK (io), K1 P2MAP5/P2.5 (io), K2 P2MAP6/P2.6 (io), K11 TB0.6/P4.6 (io), K12 TB0OUTH/SVMOUT/P4.7 (io), L1 DVCC1 (power), L2 P2MAP7/P2.7 (io), L3 P5.2 (io), L4 P5.3 (io), L5 TA0CLK/ACLK/P1.0 (io), L6 TA0.4/P1.5 (io), L7 TA1CLK/CBOUT/P3.0 (io), L8 TA1.2/P3.3 (io), L9 TA2.1/P3.6 (io), L10 TB0.2/P4.2 (io), L11 TB0.5/P4.5 (io), L12 TB0.4/P4.4 (io), M1 DVSS1 (power), M2 VCORE (io), M3 DVSS (power), M4 P5.4 (io), M5 TA0.0/P1.1 (io), M6 TA0.3/P1.4 (io), M7 TA0.2/P1.7 (io), M8 TA1.1/P3.2 (io), M9 TA2.0/P3.5 (io), M10 TA2.2/P3.7 (io), M11 TB0.1/P4.1 (io), M12 TB0.3/P4.3 (io)

## MSP430F5340IRGZ
designator *  value MSP430F5340IRGZ
ki_keywords: TI MSP430 16-bit mixed signal microcontroller; ki_description: 64kB Flash, 6kB RAM, QFN-48; ki_fp_filters: Texas*S?PVQFN*; Footprint: Package_DFN_QFN:Texas_S-PVQFN-N48_EP5.15x5.15mm; Supplier: http://www.ti.com/lit/ds/symlink/msp430f5340.pdf
footprint Texas_S-PVQFN-N48_EP5.15x5.15mm
pins: 1 P6.3/A3/CB3 (io), 2 P6.4/A4/CB4 (io), 3 P6.5/A5/CB5 (io), 4 P5.0/A8/VREF+/VeREF+ (io), 5 P5.1/A9/VREF-/VeREF- (io), 6 AVCC1 (power), 7 P5.4/XIN (io), 8 P5.5/XOUT (io), 9 AVSS1 (power), 10 DVCC1 (power), 11 DVSS1 (power), 12 VCORE, 13 TA0CLK/ACLK/P1.0 (io), 14 TA0.0/P1.1 (io), 15 TA0.1/P1.2 (io), 16 TA0.2/P1.3 (io), 17 TA0.3/P1.4 (io), 18 TA0.4/P1.5 (io), 19 TA1CLK/CBOUT/P1.6 (io), 20 TA1.0/P1.7 (io), 21 UCB0STE/UCA0CLK/P2.7 (io), 22 UCB0SIMO/UCB0SDA/P3.0 (io), 23 UCB0SOMI/UCB0SCL/P3.1 (io), 24 UCB0CLK/UCA0STE/P3.2 (io), 25 UCA0TXD/UCA0SIMO/P3.3 (io), 26 UCA0RXD/UCA0SOMI/P3.4 (io), 27 PM_UCB1STE/PM_UCA1CLK/P4.0 (io), 28 PM_UCB1SIMO/PM_UCB1SDA/P4.1 (io), 29 PM_UCB1SOMI/PM_UCB1SCL/P4.2 (io), 30 PM_UCB1CLK/PM_UCA1STE/P4.3 (io), 31 DVSS2 (power), 32 DVCC2 (power), 33 PM_UCA1TXD/PM_UCA1SIMO/P4.4 (io), 34 PM_UCA1RXD/PM_UCA1SOMI/P4.5 (io), 35 PM_NONE/P4.6 (io), 36 PM_NONE/P4.7 (io), 37 P5.7/TB0.1 (io), 38 DVSS3 (power), 39 P5.2/XT2IN (io), 40 P5.3/XT2OUT (io), 41 SBWTCK/TEST (in), 42 PJ.0/TDO (io), 43 PJ.1/TDI/TCLK (io), 44 PJ.2/TMS (io), 45 PJ.3/TCK (io), 46 ~{{RST}/NMI/SBWTDIO} (in), 47 P6.1/A1/CB1 (io), 48 P6.2/A2/CB2 (io)

## MSP430F5341IRGZ
designator *  value MSP430F5341IRGZ
ki_keywords: TI MSP430 16-bit mixed signal microcontroller; ki_description: 96kB Flash, 8kB RAM, QFN-48; ki_fp_filters: Texas*S?PVQFN*; Footprint: Package_DFN_QFN:Texas_S-PVQFN-N48_EP5.15x5.15mm; Supplier: http://www.ti.com/lit/ds/symlink/msp430f5341.pdf
footprint Texas_S-PVQFN-N48_EP5.15x5.15mm
pins: 1 P6.3/A3/CB3 (io), 2 P6.4/A4/CB4 (io), 3 P6.5/A5/CB5 (io), 4 P5.0/A8/VREF+/VeREF+ (io), 5 P5.1/A9/VREF-/VeREF- (io), 6 AVCC1 (power), 7 P5.4/XIN (io), 8 P5.5/XOUT (io), 9 AVSS1 (power), 10 DVCC1 (power), 11 DVSS1 (power), 12 VCORE, 13 TA0CLK/ACLK/P1.0 (io), 14 TA0.0/P1.1 (io), 15 TA0.1/P1.2 (io), 16 TA0.2/P1.3 (io), 17 TA0.3/P1.4 (io), 18 TA0.4/P1.5 (io), 19 TA1CLK/CBOUT/P1.6 (io), 20 TA1.0/P1.7 (io), 21 UCB0STE/UCA0CLK/P2.7 (io), 22 UCB0SIMO/UCB0SDA/P3.0 (io), 23 UCB0SOMI/UCB0SCL/P3.1 (io), 24 UCB0CLK/UCA0STE/P3.2 (io), 25 UCA0TXD/UCA0SIMO/P3.3 (io), 26 UCA0RXD/UCA0SOMI/P3.4 (io), 27 PM_UCB1STE/PM_UCA1CLK/P4.0 (io), 28 PM_UCB1SIMO/PM_UCB1SDA/P4.1 (io), 29 PM_UCB1SOMI/PM_UCB1SCL/P4.2 (io), 30 PM_UCB1CLK/PM_UCA1STE/P4.3 (io), 31 DVSS2 (power), 32 DVCC2 (power), 33 PM_UCA1TXD/PM_UCA1SIMO/P4.4 (io), 34 PM_UCA1RXD/PM_UCA1SOMI/P4.5 (io), 35 PM_NONE/P4.6 (io), 36 PM_NONE/P4.7 (io), 37 P5.7/TB0.1 (io), 38 DVSS3 (power), 39 P5.2/XT2IN (io), 40 P5.3/XT2OUT (io), 41 SBWTCK/TEST (in), 42 PJ.0/TDO (io), 43 PJ.1/TDI/TCLK (io), 44 PJ.2/TMS (io), 45 PJ.3/TCK (io), 46 ~{{RST}/NMI/SBWTDIO} (in), 47 P6.1/A1/CB1 (io), 48 P6.2/A2/CB2 (io)

## MSP430F5342IRGZ
designator *  value MSP430F5342IRGZ
ki_keywords: TI MSP430 16-bit mixed signal microcontroller; ki_description: 128kB Flash, 10kB RAM, QFN-48; ki_fp_filters: Texas*S?PVQFN*; Footprint: Package_DFN_QFN:Texas_S-PVQFN-N48_EP5.15x5.15mm; Supplier: http://www.ti.com/lit/ds/symlink/msp430f5342.pdf
footprint Texas_S-PVQFN-N48_EP5.15x5.15mm
pins: 1 P6.3/A3/CB3 (io), 2 P6.4/A4/CB4 (io), 3 P6.5/A5/CB5 (io), 4 P5.0/A8/VREF+/VeREF+ (io), 5 P5.1/A9/VREF-/VeREF- (io), 6 AVCC1 (power), 7 P5.4/XIN (io), 8 P5.5/XOUT (io), 9 AVSS1 (power), 10 DVCC1 (power), 11 DVSS1 (power), 12 VCORE, 13 TA0CLK/ACLK/P1.0 (io), 14 TA0.0/P1.1 (io), 15 TA0.1/P1.2 (io), 16 TA0.2/P1.3 (io), 17 TA0.3/P1.4 (io), 18 TA0.4/P1.5 (io), 19 TA1CLK/CBOUT/P1.6 (io), 20 TA1.0/P1.7 (io), 21 UCB0STE/UCA0CLK/P2.7 (io), 22 UCB0SIMO/UCB0SDA/P3.0 (io), 23 UCB0SOMI/UCB0SCL/P3.1 (io), 24 UCB0CLK/UCA0STE/P3.2 (io), 25 UCA0TXD/UCA0SIMO/P3.3 (io), 26 UCA0RXD/UCA0SOMI/P3.4 (io), 27 PM_UCB1STE/PM_UCA1CLK/P4.0 (io), 28 PM_UCB1SIMO/PM_UCB1SDA/P4.1 (io), 29 PM_UCB1SOMI/PM_UCB1SCL/P4.2 (io), 30 PM_UCB1CLK/PM_UCA1STE/P4.3 (io), 31 DVSS2 (power), 32 DVCC2 (power), 33 PM_UCA1TXD/PM_UCA1SIMO/P4.4 (io), 34 PM_UCA1RXD/PM_UCA1SOMI/P4.5 (io), 35 PM_NONE/P4.6 (io), 36 PM_NONE/P4.7 (io), 37 P5.7/TB0.1 (io), 38 DVSS3 (power), 39 P5.2/XT2IN (io), 40 P5.3/XT2OUT (io), 41 SBWTCK/TEST (in), 42 PJ.0/TDO (io), 43 PJ.1/TDI/TCLK (io), 44 PJ.2/TMS (io), 45 PJ.3/TCK (io), 46 ~{{RST}/NMI/SBWTDIO} (in), 47 P6.1/A1/CB1 (io), 48 P6.2/A2/CB2 (io)

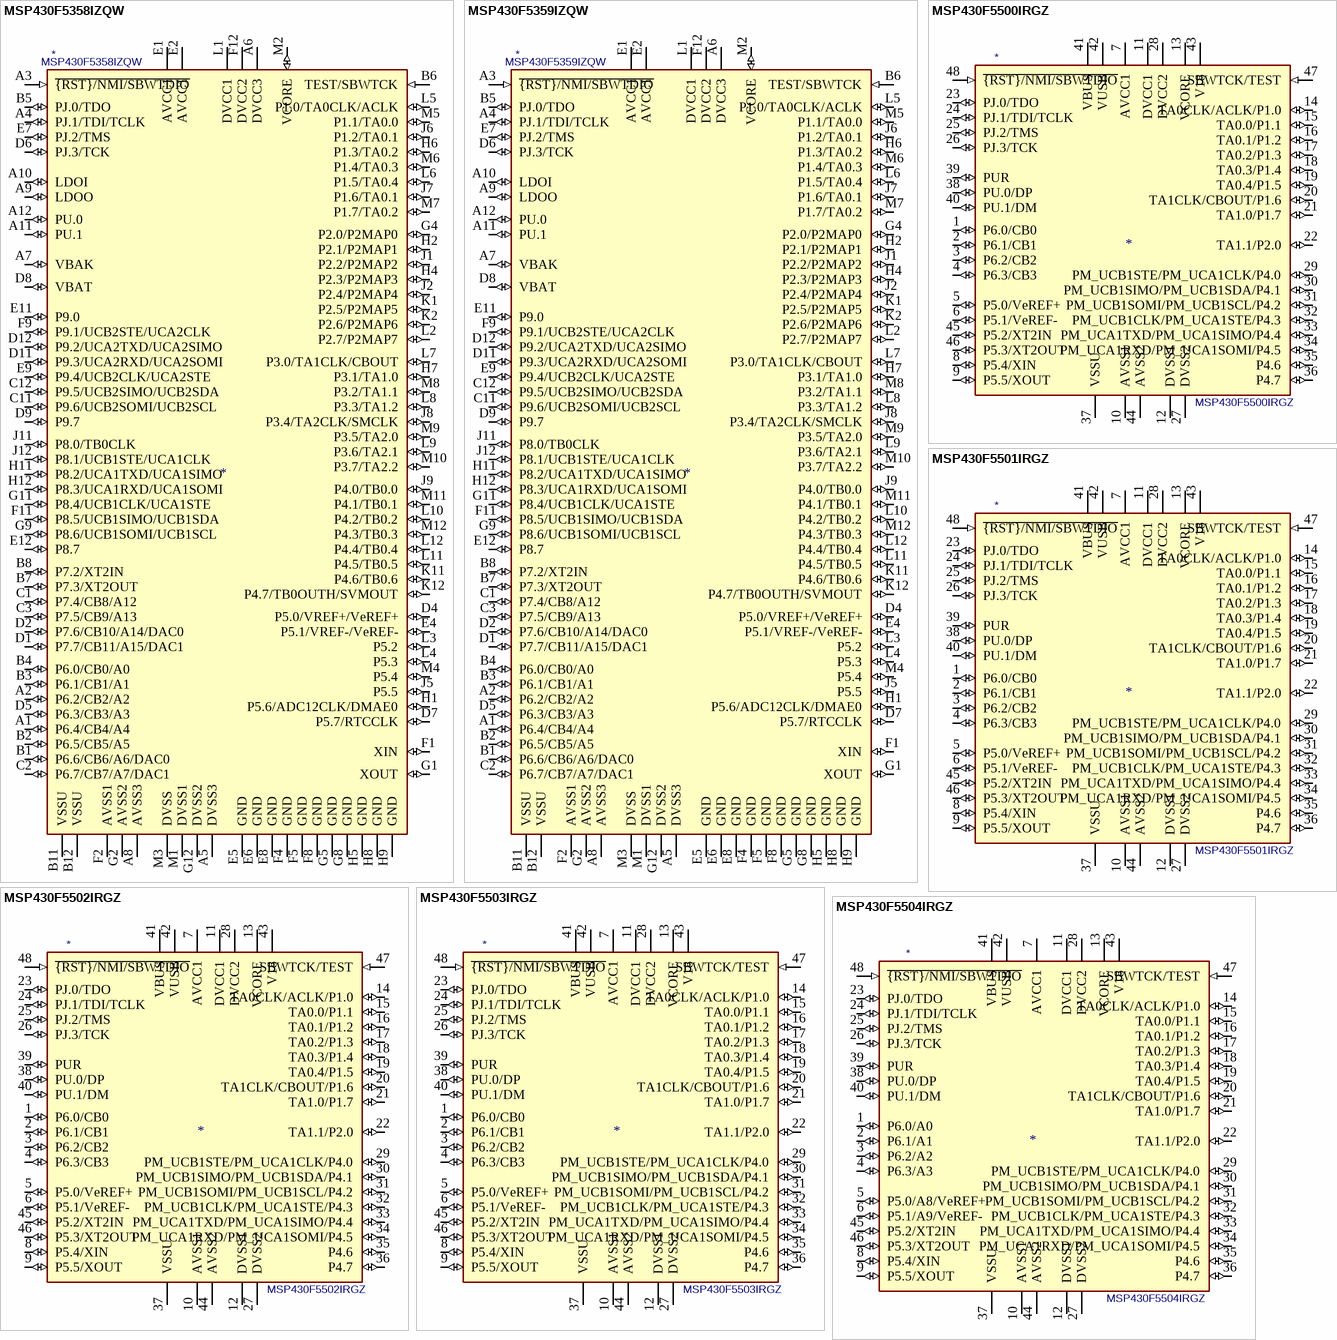
[diagram p15: symbols MSP430F5358IZQW to MSP430F5504IRGZ]

## MSP430F5358IZQW
designator *  value MSP430F5358IZQW
ki_keywords: TI MSP430 16-bit mixed signal microcontroller; ki_description: 384kB Flash, 34kB RAM, BGA-113; ki_fp_filters: Texas*MicroStar*Junior*BGA*7.0x7.0mm*Layout12x12*P0.5mm*; Footprint: Package_BGA:Texas_MicroStar_Junior_BGA-113_7.0x7.0mm_Layout12x12_P0.5mm; Supplier: http://www.ti.com/lit/ds/symlink/msp430f5358.pdf
footprint Texas_MicroStar_Junior_BGA-113_7.0x7.0mm_Layout12x12_P0.5mm
pins: A1 P6.4/CB4/A4 (io), A2 P6.2/CB2/A2 (io), A3 ~{{RST}/NMI/SBWTDIO} (in), A4 PJ.1/TDI/TCLK (io), A5 DVSS3 (power), A6 DVCC3 (power), A7 VBAK (io), A8 AVSS3 (power), A9 LDOO (io), A10 LDOI (io), A11 PU.1 (io), A12 PU.0 (io), B1 P6.6/CB6/A6/DAC0 (io), B2 P6.5/CB5/A5 (io), B3 P6.1/CB1/A1 (io), B4 P6.0/CB0/A0 (io), B5 PJ.0/TDO (io), B6 TEST/SBWTCK (in), B7 P7.3/XT2OUT (io), B8 P7.2/XT2IN (io), B11 VSSU (power), B12 VSSU (power), C1 P7.4/CB8/A12 (io), C2 P6.7/CB7/A7/DAC1 (io), C3 P7.5/CB9/A13 (io), C11 P9.6/UCB2SOMI/UCB2SCL (io), C12 P9.5/UCB2SIMO/UCB2SDA (io), D1 P7.7/CB11/A15/DAC1 (io), D2 P7.6/CB10/A14/DAC0 (io), D4 P5.0/VREF+/VeREF+ (io), D5 P6.3/CB3/A3 (io), D6 PJ.3/TCK (io), D7 P5.7/RTCCLK (io), D8 VBAT (io), D9 P9.7 (io), D11 P9.3/UCA2RXD/UCA2SOMI (io), D12 P9.2/UCA2TXD/UCA2SIMO (io), E1 AVCC1 (power), E2 AVCC1 (power), E4 P5.1/VREF-/VeREF- (io), E5 GND (power), E6 GND (power), E7 PJ.2/TMS (io), E8 GND (power), E9 P9.4/UCB2CLK/UCA2STE (io), E11 P9.0 (io), E12 P8.7 (io), F1 XIN (io), F2 AVSS1 (power), F4 GND (power), F5 GND (power), F8 GND (power), F9 P9.1/UCB2STE/UCA2CLK (io), F11 P8.5/UCB1SIMO/UCB1SDA (io), F12 DVCC2 (power), G1 XOUT (io), G2 AVSS2 (power), G4 P2.0/P2MAP0 (io), G5 GND (power), G8 GND (power), G9 P8.6/UCB1SOMI/UCB1SCL (io), G11 P8.4/UCB1CLK/UCA1STE (io), G12 DVSS2 (power), H1 P5.6/ADC12CLK/DMAE0 (io), H2 P2.1/P2MAP1 (io), H4 P2.3/P2MAP3 (io), H5 GND (power), H6 P1.3/TA0.2 (io), H7 P3.1/TA1.0 (io), H8 GND (power), H9 GND (power), H11 P8.2/UCA1TXD/UCA1SIMO (io), H12 P8.3/UCA1RXD/UCA1SOMI (io), J1 P2.2/P2MAP2 (io), J2 P2.4/P2MAP4 (io), J5 P5.5 (io), J6 P1.2/TA0.1 (io), J7 P1.6/TA0.1 (io), J8 P3.4/TA2CLK/SMCLK (io), J9 P4.0/TB0.0 (io), J11 P8.0/TB0CLK (io), J12 P8.1/UCB1STE/UCA1CLK (io), K1 P2.5/P2MAP5 (io), K2 P2.6/P2MAP6 (io), K11 P4.6/TB0.6 (io), K12 P4.7/TB0OUTH/SVMOUT (io), L1 DVCC1 (power), L2 P2.7/P2MAP7 (io), L3 P5.2 (io), L4 P5.3 (io), L5 P1.0/TA0CLK/ACLK (io), L6 P1.5/TA0.4 (io), L7 P3.0/TA1CLK/CBOUT (io), L8 P3.3/TA1.2 (io), L9 P3.6/TA2.1 (io), L10 P4.2/TB0.2 (io), L11 P4.5/TB0.5 (io), L12 P4.4/TB0.4 (io), M1 DVSS1 (power), M2 VCORE (io), M3 DVSS (power), M4 P5.4 (io), M5 P1.1/TA0.0 (io), M6 P1.4/TA0.3 (io), M7 P1.7/TA0.2 (io), M8 P3.2/TA1.1 (io), M9 P3.5/TA2.0 (io), M10 P3.7/TA2.2 (io), M11 P4.1/TB0.1 (io), M12 P4.3/TB0.3 (io)

## MSP430F5359IZQW
designator *  value MSP430F5359IZQW
ki_keywords: TI MSP430 16-bit mixed signal microcontroller; ki_description: 512kB Flash, 66kB RAM, BGA-113; ki_fp_filters: Texas*MicroStar*Junior*BGA*7.0x7.0mm*Layout12x12*P0.5mm*; Footprint: Package_BGA:Texas_MicroStar_Junior_BGA-113_7.0x7.0mm_Layout12x12_P0.5mm; Supplier: http://www.ti.com/lit/ds/symlink/msp430f5359.pdf
footprint Texas_MicroStar_Junior_BGA-113_7.0x7.0mm_Layout12x12_P0.5mm
pins: A1 P6.4/CB4/A4 (io), A2 P6.2/CB2/A2 (io), A3 ~{{RST}/NMI/SBWTDIO} (in), A4 PJ.1/TDI/TCLK (io), A5 DVSS3 (power), A6 DVCC3 (power), A7 VBAK (io), A8 AVSS3 (power), A9 LDOO (io), A10 LDOI (io), A11 PU.1 (io), A12 PU.0 (io), B1 P6.6/CB6/A6/DAC0 (io), B2 P6.5/CB5/A5 (io), B3 P6.1/CB1/A1 (io), B4 P6.0/CB0/A0 (io), B5 PJ.0/TDO (io), B6 TEST/SBWTCK (in), B7 P7.3/XT2OUT (io), B8 P7.2/XT2IN (io), B11 VSSU (power), B12 VSSU (power), C1 P7.4/CB8/A12 (io), C2 P6.7/CB7/A7/DAC1 (io), C3 P7.5/CB9/A13 (io), C11 P9.6/UCB2SOMI/UCB2SCL (io), C12 P9.5/UCB2SIMO/UCB2SDA (io), D1 P7.7/CB11/A15/DAC1 (io), D2 P7.6/CB10/A14/DAC0 (io), D4 P5.0/VREF+/VeREF+ (io), D5 P6.3/CB3/A3 (io), D6 PJ.3/TCK (io), D7 P5.7/RTCCLK (io), D8 VBAT (io), D9 P9.7 (io), D11 P9.3/UCA2RXD/UCA2SOMI (io), D12 P9.2/UCA2TXD/UCA2SIMO (io), E1 AVCC1 (power), E2 AVCC1 (power), E4 P5.1/VREF-/VeREF- (io), E5 GND (power), E6 GND (power), E7 PJ.2/TMS (io), E8 GND (power), E9 P9.4/UCB2CLK/UCA2STE (io), E11 P9.0 (io), E12 P8.7 (io), F1 XIN (io), F2 AVSS1 (power), F4 GND (power), F5 GND (power), F8 GND (power), F9 P9.1/UCB2STE/UCA2CLK (io), F11 P8.5/UCB1SIMO/UCB1SDA (io), F12 DVCC2 (power), G1 XOUT (io), G2 AVSS2 (power), G4 P2.0/P2MAP0 (io), G5 GND (power), G8 GND (power), G9 P8.6/UCB1SOMI/UCB1SCL (io), G11 P8.4/UCB1CLK/UCA1STE (io), G12 DVSS2 (power), H1 P5.6/ADC12CLK/DMAE0 (io), H2 P2.1/P2MAP1 (io), H4 P2.3/P2MAP3 (io), H5 GND (power), H6 P1.3/TA0.2 (io), H7 P3.1/TA1.0 (io), H8 GND (power), H9 GND (power), H11 P8.2/UCA1TXD/UCA1SIMO (io), H12 P8.3/UCA1RXD/UCA1SOMI (io), J1 P2.2/P2MAP2 (io), J2 P2.4/P2MAP4 (io), J5 P5.5 (io), J6 P1.2/TA0.1 (io), J7 P1.6/TA0.1 (io), J8 P3.4/TA2CLK/SMCLK (io), J9 P4.0/TB0.0 (io), J11 P8.0/TB0CLK (io), J12 P8.1/UCB1STE/UCA1CLK (io), K1 P2.5/P2MAP5 (io), K2 P2.6/P2MAP6 (io), K11 P4.6/TB0.6 (io), K12 P4.7/TB0OUTH/SVMOUT (io), L1 DVCC1 (power), L2 P2.7/P2MAP7 (io), L3 P5.2 (io), L4 P5.3 (io), L5 P1.0/TA0CLK/ACLK (io), L6 P1.5/TA0.4 (io), L7 P3.0/TA1CLK/CBOUT (io), L8 P3.3/TA1.2 (io), L9 P3.6/TA2.1 (io), L10 P4.2/TB0.2 (io), L11 P4.5/TB0.5 (io), L12 P4.4/TB0.4 (io), M1 DVSS1 (power), M2 VCORE (io), M3 DVSS (power), M4 P5.4 (io), M5 P1.1/TA0.0 (io), M6 P1.4/TA0.3 (io), M7 P1.7/TA0.2 (io), M8 P3.2/TA1.1 (io), M9 P3.5/TA2.0 (io), M10 P3.7/TA2.2 (io), M11 P4.1/TB0.1 (io), M12 P4.3/TB0.3 (io)

## MSP430F5500IRGZ
designator *  value MSP430F5500IRGZ
ki_keywords: TI MSP430 16-bit mixed signal microcontroller; ki_description: 8kB Flash, 4kB + 2kB RAM, QFN-48; ki_fp_filters: Texas*S?PVQFN*; Footprint: Package_DFN_QFN:Texas_S-PVQFN-N48_EP5.15x5.15mm; Supplier: http://www.ti.com/lit/ds/symlink/msp430f5500.pdf
footprint Texas_S-PVQFN-N48_EP5.15x5.15mm
pins: 1 P6.0/CB0 (io), 2 P6.1/CB1 (io), 3 P6.2/CB2 (io), 4 P6.3/CB3 (io), 5 P5.0/VeREF+ (io), 6 P5.1/VeREF- (io), 7 AVCC1 (power), 8 P5.4/XIN (io), 9 P5.5/XOUT (io), 10 AVSS1 (power), 11 DVCC1 (power), 12 DVSS1 (power), 13 VCORE, 14 TA0CLK/ACLK/P1.0 (io), 15 TA0.0/P1.1 (io), 16 TA0.1/P1.2 (io), 17 TA0.2/P1.3 (io), 18 TA0.3/P1.4 (io), 19 TA0.4/P1.5 (io), 20 TA1CLK/CBOUT/P1.6 (io), 21 TA1.0/P1.7 (io), 22 TA1.1/P2.0 (io), 23 PJ.0/TDO (io), 24 PJ.1/TDI/TCLK (io), 25 PJ.2/TMS (io), 26 PJ.3/TCK (io), 27 DVSS2 (power), 28 DVCC2 (power), 29 PM_UCB1STE/PM_UCA1CLK/P4.0 (io), 30 PM_UCB1SIMO/PM_UCB1SDA/P4.1 (io), 31 PM_UCB1SOMI/PM_UCB1SCL/P4.2 (io), 32 PM_UCB1CLK/PM_UCA1STE/P4.3 (io), 33 PM_UCA1TXD/PM_UCA1SIMO/P4.4 (io), 34 PM_UCA1RXD/PM_UCA1SOMI/P4.5 (io), 35 P4.6 (io), 36 P4.7 (io), 37 VSSU (power), 38 PU.0/DP (io), 39 PUR (io), 40 PU.1/DM (io), 41 VBUS (power), 42 VUSB (power), 43 V18, 44 AVSS2 (power), 45 P5.2/XT2IN (io), 46 P5.3/XT2OUT (io), 47 SBWTCK/TEST (in), 48 ~{{RST}/NMI/SBWTDIO} (in)

## MSP430F5501IRGZ
designator *  value MSP430F5501IRGZ
ki_keywords: TI MSP430 16-bit mixed signal microcontroller; ki_description: 16kB Flash, 4kB + 2kB RAM, QFN-48; ki_fp_filters: Texas*S?PVQFN*; Footprint: Package_DFN_QFN:Texas_S-PVQFN-N48_EP5.15x5.15mm; Supplier: http://www.ti.com/lit/ds/symlink/msp430f5501.pdf
footprint Texas_S-PVQFN-N48_EP5.15x5.15mm
pins: 1 P6.0/CB0 (io), 2 P6.1/CB1 (io), 3 P6.2/CB2 (io), 4 P6.3/CB3 (io), 5 P5.0/VeREF+ (io), 6 P5.1/VeREF- (io), 7 AVCC1 (power), 8 P5.4/XIN (io), 9 P5.5/XOUT (io), 10 AVSS1 (power), 11 DVCC1 (power), 12 DVSS1 (power), 13 VCORE, 14 TA0CLK/ACLK/P1.0 (io), 15 TA0.0/P1.1 (io), 16 TA0.1/P1.2 (io), 17 TA0.2/P1.3 (io), 18 TA0.3/P1.4 (io), 19 TA0.4/P1.5 (io), 20 TA1CLK/CBOUT/P1.6 (io), 21 TA1.0/P1.7 (io), 22 TA1.1/P2.0 (io), 23 PJ.0/TDO (io), 24 PJ.1/TDI/TCLK (io), 25 PJ.2/TMS (io), 26 PJ.3/TCK (io), 27 DVSS2 (power), 28 DVCC2 (power), 29 PM_UCB1STE/PM_UCA1CLK/P4.0 (io), 30 PM_UCB1SIMO/PM_UCB1SDA/P4.1 (io), 31 PM_UCB1SOMI/PM_UCB1SCL/P4.2 (io), 32 PM_UCB1CLK/PM_UCA1STE/P4.3 (io), 33 PM_UCA1TXD/PM_UCA1SIMO/P4.4 (io), 34 PM_UCA1RXD/PM_UCA1SOMI/P4.5 (io), 35 P4.6 (io), 36 P4.7 (io), 37 VSSU (power), 38 PU.0/DP (io), 39 PUR (io), 40 PU.1/DM (io), 41 VBUS (power), 42 VUSB (power), 43 V18, 44 AVSS2 (power), 45 P5.2/XT2IN (io), 46 P5.3/XT2OUT (io), 47 SBWTCK/TEST (in), 48 ~{{RST}/NMI/SBWTDIO} (in)

## MSP430F5502IRGZ
designator *  value MSP430F5502IRGZ
ki_keywords: TI MSP430 16-bit mixed signal microcontroller; ki_description: 24kB Flash, 4kB + 2kB RAM, QFN-48; ki_fp_filters: Texas*S?PVQFN*; Footprint: Package_DFN_QFN:Texas_S-PVQFN-N48_EP5.15x5.15mm; Supplier: http://www.ti.com/lit/ds/symlink/msp430f5502.pdf
footprint Texas_S-PVQFN-N48_EP5.15x5.15mm
pins: 1 P6.0/CB0 (io), 2 P6.1/CB1 (io), 3 P6.2/CB2 (io), 4 P6.3/CB3 (io), 5 P5.0/VeREF+ (io), 6 P5.1/VeREF- (io), 7 AVCC1 (power), 8 P5.4/XIN (io), 9 P5.5/XOUT (io), 10 AVSS1 (power), 11 DVCC1 (power), 12 DVSS1 (power), 13 VCORE, 14 TA0CLK/ACLK/P1.0 (io), 15 TA0.0/P1.1 (io), 16 TA0.1/P1.2 (io), 17 TA0.2/P1.3 (io), 18 TA0.3/P1.4 (io), 19 TA0.4/P1.5 (io), 20 TA1CLK/CBOUT/P1.6 (io), 21 TA1.0/P1.7 (io), 22 TA1.1/P2.0 (io), 23 PJ.0/TDO (io), 24 PJ.1/TDI/TCLK (io), 25 PJ.2/TMS (io), 26 PJ.3/TCK (io), 27 DVSS2 (power), 28 DVCC2 (power), 29 PM_UCB1STE/PM_UCA1CLK/P4.0 (io), 30 PM_UCB1SIMO/PM_UCB1SDA/P4.1 (io), 31 PM_UCB1SOMI/PM_UCB1SCL/P4.2 (io), 32 PM_UCB1CLK/PM_UCA1STE/P4.3 (io), 33 PM_UCA1TXD/PM_UCA1SIMO/P4.4 (io), 34 PM_UCA1RXD/PM_UCA1SOMI/P4.5 (io), 35 P4.6 (io), 36 P4.7 (io), 37 VSSU (power), 38 PU.0/DP (io), 39 PUR (io), 40 PU.1/DM (io), 41 VBUS (power), 42 VUSB (power), 43 V18, 44 AVSS2 (power), 45 P5.2/XT2IN (io), 46 P5.3/XT2OUT (io), 47 SBWTCK/TEST (in), 48 ~{{RST}/NMI/SBWTDIO} (in)

## MSP430F5503IRGZ
designator *  value MSP430F5503IRGZ
ki_keywords: TI MSP430 16-bit mixed signal microcontroller; ki_description: 32kB Flash, 4kB + 2kB RAM, QFN-48; ki_fp_filters: Texas*S?PVQFN*; Footprint: Package_DFN_QFN:Texas_S-PVQFN-N48_EP5.15x5.15mm; Supplier: http://www.ti.com/lit/ds/symlink/msp430f5503.pdf
footprint Texas_S-PVQFN-N48_EP5.15x5.15mm
pins: 1 P6.0/CB0 (io), 2 P6.1/CB1 (io), 3 P6.2/CB2 (io), 4 P6.3/CB3 (io), 5 P5.0/VeREF+ (io), 6 P5.1/VeREF- (io), 7 AVCC1 (power), 8 P5.4/XIN (io), 9 P5.5/XOUT (io), 10 AVSS1 (power), 11 DVCC1 (power), 12 DVSS1 (power), 13 VCORE, 14 TA0CLK/ACLK/P1.0 (io), 15 TA0.0/P1.1 (io), 16 TA0.1/P1.2 (io), 17 TA0.2/P1.3 (io), 18 TA0.3/P1.4 (io), 19 TA0.4/P1.5 (io), 20 TA1CLK/CBOUT/P1.6 (io), 21 TA1.0/P1.7 (io), 22 TA1.1/P2.0 (io), 23 PJ.0/TDO (io), 24 PJ.1/TDI/TCLK (io), 25 PJ.2/TMS (io), 26 PJ.3/TCK (io), 27 DVSS2 (power), 28 DVCC2 (power), 29 PM_UCB1STE/PM_UCA1CLK/P4.0 (io), 30 PM_UCB1SIMO/PM_UCB1SDA/P4.1 (io), 31 PM_UCB1SOMI/PM_UCB1SCL/P4.2 (io), 32 PM_UCB1CLK/PM_UCA1STE/P4.3 (io), 33 PM_UCA1TXD/PM_UCA1SIMO/P4.4 (io), 34 PM_UCA1RXD/PM_UCA1SOMI/P4.5 (io), 35 P4.6 (io), 36 P4.7 (io), 37 VSSU (power), 38 PU.0/DP (io), 39 PUR (io), 40 PU.1/DM (io), 41 VBUS (power), 42 VUSB (power), 43 V18, 44 AVSS2 (power), 45 P5.2/XT2IN (io), 46 P5.3/XT2OUT (io), 47 SBWTCK/TEST (in), 48 ~{{RST}/NMI/SBWTDIO} (in)

## MSP430F5504IRGZ
designator *  value MSP430F5504IRGZ
ki_keywords: TI MSP430 16-bit mixed signal microcontroller; ki_description: 8kB Flash, 4kB + 2kB RAM, QFN-48; ki_fp_filters: Texas*S?PVQFN*; Footprint: Package_DFN_QFN:Texas_S-PVQFN-N48_EP5.15x5.15mm; Supplier: http://www.ti.com/lit/ds/symlink/msp430f5504.pdf
footprint Texas_S-PVQFN-N48_EP5.15x5.15mm
pins: 1 P6.0/A0 (io), 2 P6.1/A1 (io), 3 P6.2/A2 (io), 4 P6.3/A3 (io), 5 P5.0/A8/VeREF+ (io), 6 P5.1/A9/VeREF- (io), 7 AVCC1 (power), 8 P5.4/XIN (io), 9 P5.5/XOUT (io), 10 AVSS1 (power), 11 DVCC1 (power), 12 DVSS1 (power), 13 VCORE, 14 TA0CLK/ACLK/P1.0 (io), 15 TA0.0/P1.1 (io), 16 TA0.1/P1.2 (io), 17 TA0.2/P1.3 (io), 18 TA0.3/P1.4 (io), 19 TA0.4/P1.5 (io), 20 TA1CLK/CBOUT/P1.6 (io), 21 TA1.0/P1.7 (io), 22 TA1.1/P2.0 (io), 23 PJ.0/TDO (io), 24 PJ.1/TDI/TCLK (io), 25 PJ.2/TMS (io), 26 PJ.3/TCK (io), 27 DVSS2 (power), 28 DVCC2 (power), 29 PM_UCB1STE/PM_UCA1CLK/P4.0 (io), 30 PM_UCB1SIMO/PM_UCB1SDA/P4.1 (io), 31 PM_UCB1SOMI/PM_UCB1SCL/P4.2 (io), 32 PM_UCB1CLK/PM_UCA1STE/P4.3 (io), 33 PM_UCA1TXD/PM_UCA1SIMO/P4.4 (io), 34 PM_UCA1RXD/PM_UCA1SOMI/P4.5 (io), 35 P4.6 (io), 36 P4.7 (io), 37 VSSU (power), 38 PU.0/DP (io), 39 PUR (io), 40 PU.1/DM (io), 41 VBUS (power), 42 VUSB (power), 43 V18, 44 AVSS2 (power), 45 P5.2/XT2IN (io), 46 P5.3/XT2OUT (io), 47 SBWTCK/TEST (in), 48 ~{{RST}/NMI/SBWTDIO} (in)

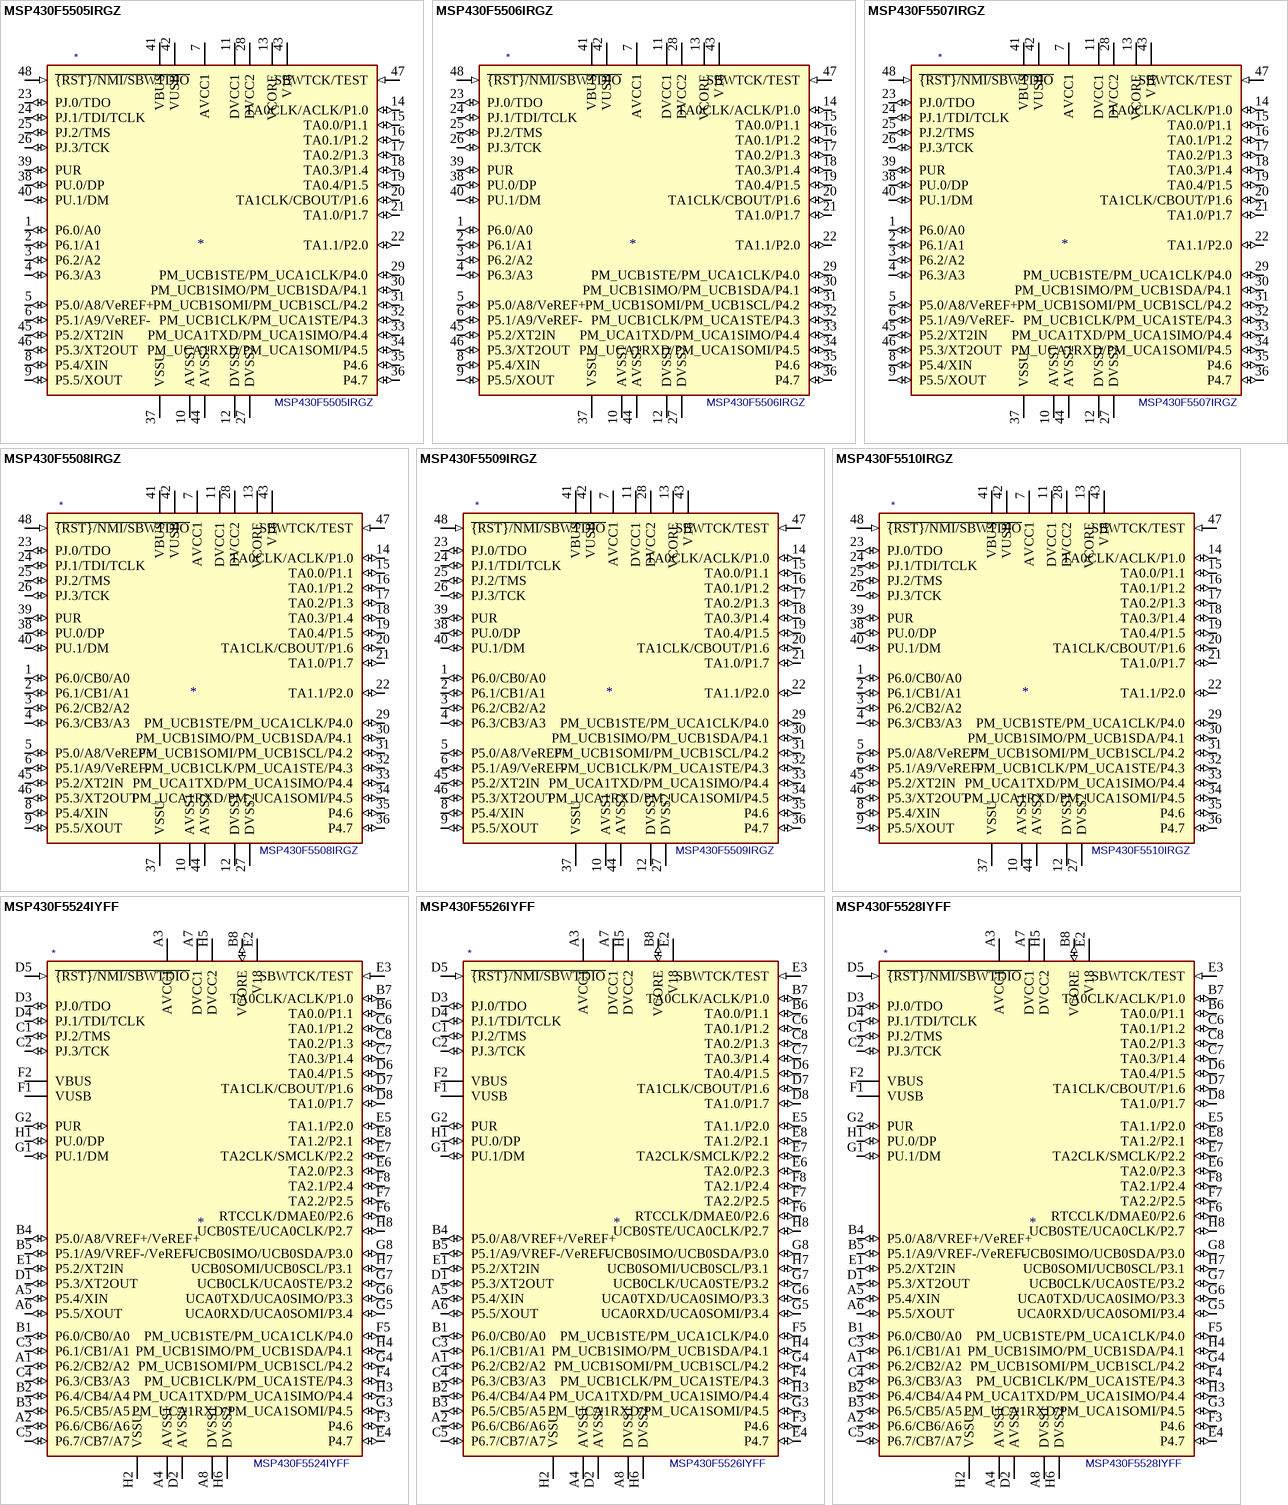
[diagram p16: symbols MSP430F5505IRGZ to MSP430F5528IYFF]

## MSP430F5505IRGZ
designator *  value MSP430F5505IRGZ
ki_keywords: TI MSP430 16-bit mixed signal microcontroller; ki_description: 16kB Flash, 4kB + 2kB RAM, QFN-48; ki_fp_filters: Texas*S?PVQFN*; Footprint: Package_DFN_QFN:Texas_S-PVQFN-N48_EP5.15x5.15mm; Supplier: http://www.ti.com/lit/ds/symlink/msp430f5505.pdf
footprint Texas_S-PVQFN-N48_EP5.15x5.15mm
pins: 1 P6.0/A0 (io), 2 P6.1/A1 (io), 3 P6.2/A2 (io), 4 P6.3/A3 (io), 5 P5.0/A8/VeREF+ (io), 6 P5.1/A9/VeREF- (io), 7 AVCC1 (power), 8 P5.4/XIN (io), 9 P5.5/XOUT (io), 10 AVSS1 (power), 11 DVCC1 (power), 12 DVSS1 (power), 13 VCORE, 14 TA0CLK/ACLK/P1.0 (io), 15 TA0.0/P1.1 (io), 16 TA0.1/P1.2 (io), 17 TA0.2/P1.3 (io), 18 TA0.3/P1.4 (io), 19 TA0.4/P1.5 (io), 20 TA1CLK/CBOUT/P1.6 (io), 21 TA1.0/P1.7 (io), 22 TA1.1/P2.0 (io), 23 PJ.0/TDO (io), 24 PJ.1/TDI/TCLK (io), 25 PJ.2/TMS (io), 26 PJ.3/TCK (io), 27 DVSS2 (power), 28 DVCC2 (power), 29 PM_UCB1STE/PM_UCA1CLK/P4.0 (io), 30 PM_UCB1SIMO/PM_UCB1SDA/P4.1 (io), 31 PM_UCB1SOMI/PM_UCB1SCL/P4.2 (io), 32 PM_UCB1CLK/PM_UCA1STE/P4.3 (io), 33 PM_UCA1TXD/PM_UCA1SIMO/P4.4 (io), 34 PM_UCA1RXD/PM_UCA1SOMI/P4.5 (io), 35 P4.6 (io), 36 P4.7 (io), 37 VSSU (power), 38 PU.0/DP (io), 39 PUR (io), 40 PU.1/DM (io), 41 VBUS (power), 42 VUSB (power), 43 V18, 44 AVSS2 (power), 45 P5.2/XT2IN (io), 46 P5.3/XT2OUT (io), 47 SBWTCK/TEST (in), 48 ~{{RST}/NMI/SBWTDIO} (in)

## MSP430F5506IRGZ
designator *  value MSP430F5506IRGZ
ki_keywords: TI MSP430 16-bit mixed signal microcontroller; ki_description: 24kB Flash, 4kB + 2kB RAM, QFN-48; ki_fp_filters: Texas*S?PVQFN*; Footprint: Package_DFN_QFN:Texas_S-PVQFN-N48_EP5.15x5.15mm; Supplier: http://www.ti.com/lit/ds/symlink/msp430f5506.pdf
footprint Texas_S-PVQFN-N48_EP5.15x5.15mm
pins: 1 P6.0/A0 (io), 2 P6.1/A1 (io), 3 P6.2/A2 (io), 4 P6.3/A3 (io), 5 P5.0/A8/VeREF+ (io), 6 P5.1/A9/VeREF- (io), 7 AVCC1 (power), 8 P5.4/XIN (io), 9 P5.5/XOUT (io), 10 AVSS1 (power), 11 DVCC1 (power), 12 DVSS1 (power), 13 VCORE, 14 TA0CLK/ACLK/P1.0 (io), 15 TA0.0/P1.1 (io), 16 TA0.1/P1.2 (io), 17 TA0.2/P1.3 (io), 18 TA0.3/P1.4 (io), 19 TA0.4/P1.5 (io), 20 TA1CLK/CBOUT/P1.6 (io), 21 TA1.0/P1.7 (io), 22 TA1.1/P2.0 (io), 23 PJ.0/TDO (io), 24 PJ.1/TDI/TCLK (io), 25 PJ.2/TMS (io), 26 PJ.3/TCK (io), 27 DVSS2 (power), 28 DVCC2 (power), 29 PM_UCB1STE/PM_UCA1CLK/P4.0 (io), 30 PM_UCB1SIMO/PM_UCB1SDA/P4.1 (io), 31 PM_UCB1SOMI/PM_UCB1SCL/P4.2 (io), 32 PM_UCB1CLK/PM_UCA1STE/P4.3 (io), 33 PM_UCA1TXD/PM_UCA1SIMO/P4.4 (io), 34 PM_UCA1RXD/PM_UCA1SOMI/P4.5 (io), 35 P4.6 (io), 36 P4.7 (io), 37 VSSU (power), 38 PU.0/DP (io), 39 PUR (io), 40 PU.1/DM (io), 41 VBUS (power), 42 VUSB (power), 43 V18, 44 AVSS2 (power), 45 P5.2/XT2IN (io), 46 P5.3/XT2OUT (io), 47 SBWTCK/TEST (in), 48 ~{{RST}/NMI/SBWTDIO} (in)

## MSP430F5507IRGZ
designator *  value MSP430F5507IRGZ
ki_keywords: TI MSP430 16-bit mixed signal microcontroller; ki_description: 32kB Flash, 4kB + 2kB RAM, QFN-48; ki_fp_filters: Texas*S?PVQFN*; Footprint: Package_DFN_QFN:Texas_S-PVQFN-N48_EP5.15x5.15mm; Supplier: http://www.ti.com/lit/ds/symlink/msp430f5507.pdf
footprint Texas_S-PVQFN-N48_EP5.15x5.15mm
pins: 1 P6.0/A0 (io), 2 P6.1/A1 (io), 3 P6.2/A2 (io), 4 P6.3/A3 (io), 5 P5.0/A8/VeREF+ (io), 6 P5.1/A9/VeREF- (io), 7 AVCC1 (power), 8 P5.4/XIN (io), 9 P5.5/XOUT (io), 10 AVSS1 (power), 11 DVCC1 (power), 12 DVSS1 (power), 13 VCORE, 14 TA0CLK/ACLK/P1.0 (io), 15 TA0.0/P1.1 (io), 16 TA0.1/P1.2 (io), 17 TA0.2/P1.3 (io), 18 TA0.3/P1.4 (io), 19 TA0.4/P1.5 (io), 20 TA1CLK/CBOUT/P1.6 (io), 21 TA1.0/P1.7 (io), 22 TA1.1/P2.0 (io), 23 PJ.0/TDO (io), 24 PJ.1/TDI/TCLK (io), 25 PJ.2/TMS (io), 26 PJ.3/TCK (io), 27 DVSS2 (power), 28 DVCC2 (power), 29 PM_UCB1STE/PM_UCA1CLK/P4.0 (io), 30 PM_UCB1SIMO/PM_UCB1SDA/P4.1 (io), 31 PM_UCB1SOMI/PM_UCB1SCL/P4.2 (io), 32 PM_UCB1CLK/PM_UCA1STE/P4.3 (io), 33 PM_UCA1TXD/PM_UCA1SIMO/P4.4 (io), 34 PM_UCA1RXD/PM_UCA1SOMI/P4.5 (io), 35 P4.6 (io), 36 P4.7 (io), 37 VSSU (power), 38 PU.0/DP (io), 39 PUR (io), 40 PU.1/DM (io), 41 VBUS (power), 42 VUSB (power), 43 V18, 44 AVSS2 (power), 45 P5.2/XT2IN (io), 46 P5.3/XT2OUT (io), 47 SBWTCK/TEST (in), 48 ~{{RST}/NMI/SBWTDIO} (in)